# Altium integrated library Altera APEX 20KE.IntLib: 235 symbols (part 12 of 49)
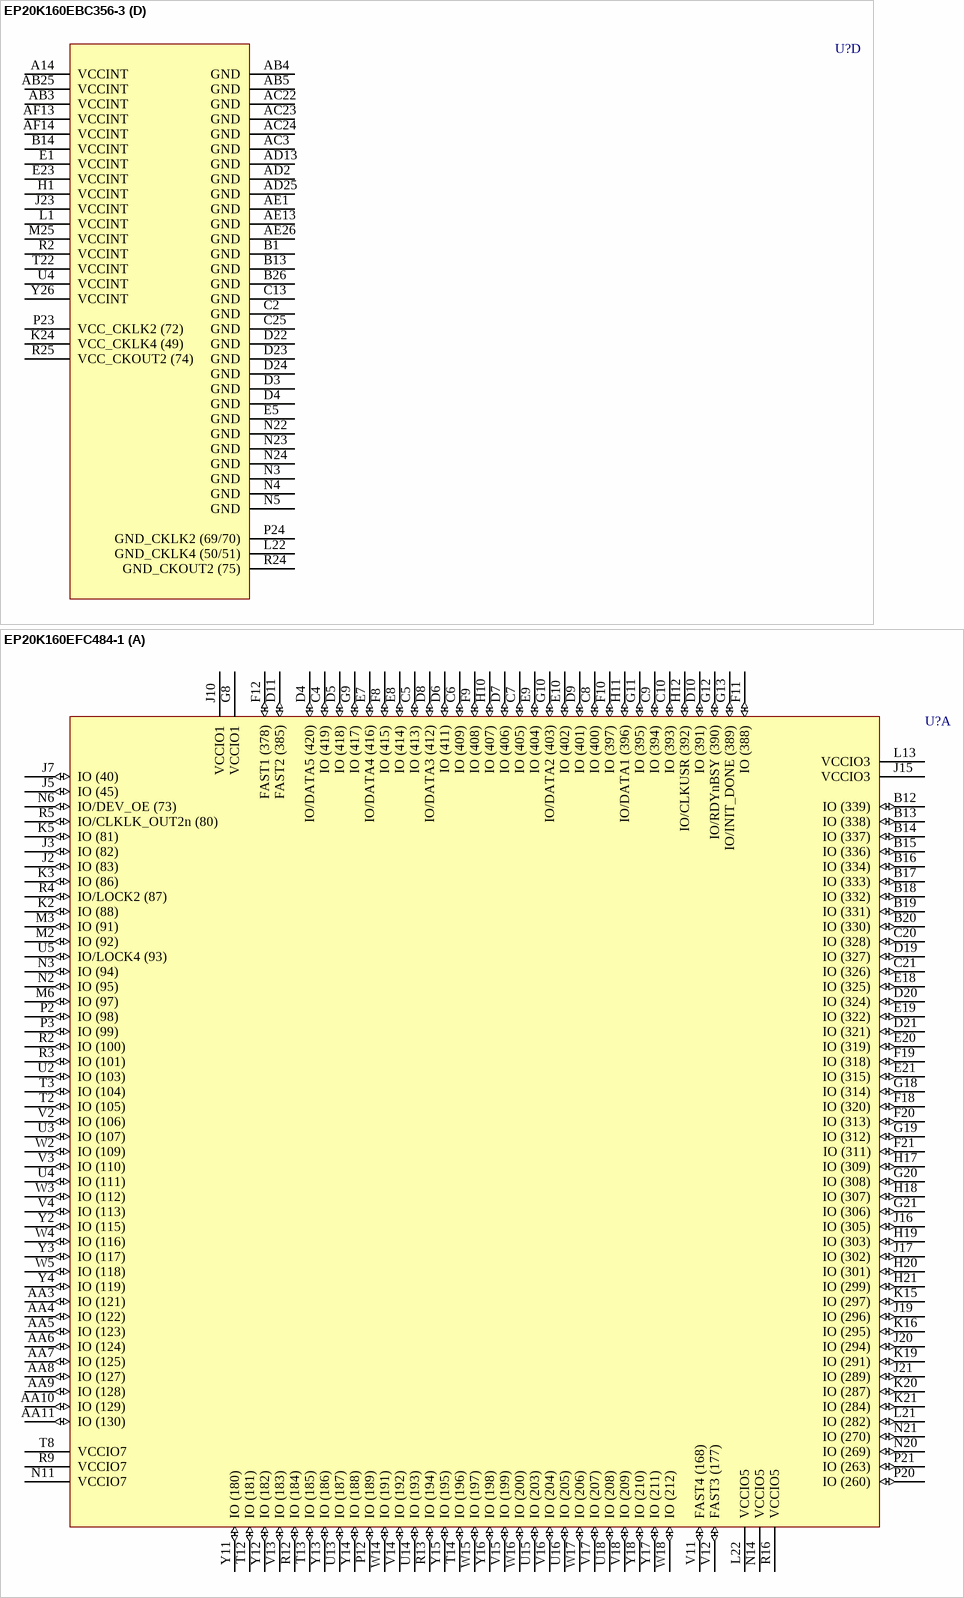
[diagram p410: symbols EP20K160EBC356-3 to EP20K160EFC484-1]

## EP20K160EBC356-3
designator U?
APEX 20K160E PLD, 356-Pin BGA, Commercial Grade, Speed Grade 3; Published: 17-Jul-2002; LatestRevisionDate: 13-Apr-2006; LatestRevisionNote: IPC-7351 Footprint Added.; DatasheetVersion: Mar-2004; PackageVersion: ver14.1, Oct-2005; PackageReference: BGA356; Publisher: Altium Limited; PackageDescription: 356-Ball Ball Grid Array (BGA356); Code_JEDEC: MO-192-BAR-2; ComponentLink1Description: Manufacturer Link; ComponentLink1URL: http://www.altera.com/products/devices/apex/apx-index.html; ComponentLink2Description: Datasheet; ComponentLink2URL: http://www.altera.com/literature/ds/apex.pdf
footprint BGA356 (BGA, 356-Leads, Body 35x35mm, Pitch 1.27mm)
3D model EP20K160E-BGA356 (356-Ball Ball Grid Array (BGA356))
part A pins: A13 FAST1 (378) (io), A15 FAST2 (385) (io), A16 IO/INIT_DONE (389) (io), A17 IO (391) (io), A18 IO (394) (io), A19 IO (397) (io), A20 IO (402) (io), A21 IO (405) (io), A22 IO (406) (io), A23 IO (409) (io), A24 IO (413) (io), A25 IO/DATA4 (416) (io), A26 VCCIO1 (power), AA22 IO (127) (io), AA23 IO (121) (io), AA24 IO (115) (io), AA25 IO (110) (io), AA26 IO (105) (io), AB22 IO (129) (io), AB23 IO (128) (io), AB24 IO (123) (io), AB26 IO (113) (io), AC4 IO (212) (io), AC5 IO (210) (io), AC25 IO (125) (io), AC26 IO (119) (io), AD1 VCCIO5 (power), AD3 IO (211) (io), AD4 IO (208) (io), AD5 IO (205) (io), AD6 IO (200) (io), AD7 IO (197) (io), AD8 IO (192) (io), AD9 IO (188) (io), AD10 IO (185) (io), AD11 IO (181) (io), AD14 VCCIO7 (power), AE2 IO (209) (io), AE3 IO (207) (io), AE4 IO (204) (io), AE5 IO (199) (io), AE6 IO (196) (io), AE7 IO (193) (io), AE8 IO (189) (io), AE9 IO (186) (io), AE10 IO (183) (io), AE11 IO (180) (io), AE14 FAST4 (168) (io), AF2 IO (206) (io), AF3 IO (203) (io), AF4 IO (198) (io), AF5 IO (195) (io), AF6 IO (194) (io), AF7 IO (191) (io), AF8 IO (187) (io), AF9 IO (184) (io), AF10 IO (182) (io), AF12 FAST3 (177) (io), AF26 VCCIO7 (power), B16 IO/RDYnBSY (390) (io), B17 IO (393) (io), B18 IO/DATA1 (396) (io), B19 IO (401) (io), B20 IO/DATA2 (403) (io), B21 IO (407) (io), B22 IO/DATA3 (412) (io), B23 IO (414) (io), B24 IO (417) (io), B25 IO (419) (io), C1 VCCIO3 (power), C14 VCCIO1 (power), C15 IO (388) (io), C16 IO/CLKUSR (392) (io), C17 IO (395) (io), C18 IO (400) (io), C19 IO (404) (io), C20 IO (408) (io), C21 IO (411) (io), C22 IO (415) (io), C23 IO (418) (io), C24 IO/DATA5 (420) (io), D1 IO (331) (io), D2 IO (336) (io), E2 IO (328) (io), E3 IO (334) (io), E4 IO (338) (io), F1 IO (319) (io), F2 IO (324) (io), F3 IO (326) (io), F4 IO (332) (io), F5 IO (337) (io), G1 IO (311) (io), G2 IO (315) (io), G3 IO (320) (io), G4 IO (325) (io), G5 IO (330) (io), H2 IO (307) (io), H3 IO (312) (io), H4 IO (318) (io), H5 IO (322) (io), J1 IO (300) (io), J2 IO (303) (io), J3 IO (306) (io), J4 IO (309) (io), J5 IO (313) (io), K1 IO (293) (io), K2 IO (295) (io), K3 IO (299) (io), K4 IO (301) (io), K5 IO (305) (io), L2 IO (289) (io), L3 IO (291) (io), L4 IO (294) (io), L5 IO (297) (io), M1 IO (283) (io), M2 IO (285) (io), M3 IO (287) (io), M4 IO (288) (io), M5 VCCIO3 (power), N1 IO (282) (io), N2 IO (281) (io), P5 VCCIO5 (power), R22 IO/CLKLK_OUT2n (80) (io), R26 IO/DEV_OE (73) (io), T23 IO (81) (io), T24 IO/LOCK2 (87) (io), T25 IO (77) (io), T26 IO (76) (io), U22 IO (91) (io), U23 IO (89) (io), U24 IO (85) (io), U25 IO (83) (io), U26 IO (82) (io), V22 IO (101) (io), V23 IO (97) (io), V24 IO (92) (io), V25 IO/LOCK4 (93) (io), V26 IO (86) (io), W22 IO (109) (io), W23 IO (104) (io), W24 IO (99) (io), W25 IO (98) (io), W26 IO (95) (io), Y22 IO (117) (io), Y23 IO (111) (io), Y24 IO (107) (io), Y25 IO (103) (io)
part B pins: A1 VCCIO2 (power), A2 IO (347) (io), A3 IO (350) (io), A4 IO (354) (io), A5 IO (355) (io), A6 IO (359) (io), A7 IO (362) (io), A8 IO (366) (io), A9 IO (369) (io), A10 IO (372) (io), A11 IO (375) (io), AA1 IO (240) (io), AA2 IO (234) (io), AA3 IO (226) (io), AA4 IO (218) (io), AA5 IO (216) (io), AB1 IO (230) (io), AB2 IO (224) (io), AC1 IO (222) (io), AC2 IO (217) (io), AD12 VCCIO4 (power), AD15 IO (165) (io), AD16 IO (162) (io), AD17 IO (157) (io), AD18 IO (153) (io), AD19 IO (150) (io), AD20 IO (145) (io), AD21 IO (141) (io), AD22 IO (138) (io), AD23 IO (135) (io), AD24 IO (133) (io), AD26 VCCIO6 (power), AE16 IO (163) (io), AE17 IO (159) (io), AE18 IO (156) (io), AE19 IO (152) (io), AE20 IO (149) (io), AE21 IO (146) (io), AE22 IO (142) (io), AE23 IO (139) (io), AE24 IO (136) (io), AE25 IO (134) (io), AF1 VCCIO4 (power), AF16 IO (164) (io), AF17 IO (160) (io), AF18 IO (158) (io), AF19 IO (155) (io), AF20 IO (151) (io), AF21 IO (148) (io), AF22 IO (147) (io), AF23 IO (144) (io), AF24 IO (140) (io), AF25 IO (137) (io), B2 IO (343) (io), B3 IO (346) (io), B4 IO (349) (io), B5 IO (353) (io), B6 IO (358) (io), B7 IO (360) (io), B8 IO (363) (io), B9 IO (367) (io), B10 IO (370) (io), B11 IO (374) (io), C3 IO (342) (io), C4 IO (345) (io), C5 IO (348) (io), C6 IO (351) (io), C7 IO (356) (io), C8 IO (361) (io), C9 IO (365) (io), C10 IO (368) (io), C11 IO (373) (io), C12 VCCIO2 (power), C26 VCCIO8 (power), D5 IO (344) (io), D25 IO (3) (io), D26 IO (11) (io), E22 IO (2) (io), E24 IO (7) (io), E25 IO (15) (io), E26 IO (17) (io), F22 IO (4) (io), F23 IO (9) (io), F24 IO/DATA6 (28) (io), F25 IO (19) (io), F26 IO (23) (io), G22 IO (13) (io), G23 IO/DATA7 (33) (io), G24 IO (21) (io), G25 IO (25) (io), G26 IO (31) (io), H22 IO/nWS (35) (io), H23 IO (27) (io), H24 IO/nRS (39) (io), H25 IO (37) (io), H26 IO (40) (io), J22 IO (34) (io), J24 IO/nCS (41) (io), J25 IO (45) (io), J26 IO (47) (io), K22 IO (43) (io), K23 IO (46) (io), K25 IO/CS (52) (io), K26 IO (53) (io), L23 IO/DEV_CLRn (54) (io), L24 IO/CLKLK_FB2n (57) (io), L26 IO/CLK4n (59) (io), M22 VCCIO8 (power), M23 CLK4p (60) (in), M24 IO/CLK2n (61) (io), N26 CLK2p (65) (in), P3 CLK1p (277) (in), P22 VCCIO6 (power), R3 IO/CLK1n (273) (io), R4 CLK3p (272) (in), R5 IO (267) (io), T1 IO/CLK3n (271) (io), T2 IO (269) (io), T3 IO (266) (io), T4 IO (263) (io), T5 IO (260) (io), U1 IO (265) (io), U2 IO (261) (io), U3 IO (259) (io), U5 IO (251) (io), V1 IO (257) (io), V2 IO (255) (io), V3 IO (253) (io), V4 IO (247) (io), V5 IO (242) (io), W1 IO (254) (io), W2 IO (248) (io), W3 IO (244) (io), W4 IO (238) (io), W5 IO (232) (io), Y1 IO (246) (io), Y2 IO (241) (io), Y3 IO (236) (io), Y4 IO (228) (io), Y5 IO (220) (io)
part C pins: A12 nCEO (377) (out), AE12 TCK (178) (in), AE15 CONF_DONE (166) (io), AF11 TMS (179) (in), AF15 nSTATUS (167) (io), B12 TRST (376) (in), B15 TDO (386) (out), L25 CLKLK_FB2p (58) (in), M26 DATA0 (63) (in), N25 DCLK (64) (in), P1 MSEL0 (279) (in), P2 MSEL1 (278) (in), P4 CLKLK_ENA (276) (in), P25 TDI (67) (in), P26 nCE (66) (in), R1 nCONFIG (275) (in), R23 CLKLK_OUT2p (79) (out)
part D pins: A14 VCCINT (power), AB3 VCCINT (power), AB4 GND (power), AB5 GND (power), AB25 VCCINT (power), AC3 GND (power), AC22 GND (power), AC23 GND (power), AC24 GND (power), AD2 GND (power), AD13 GND (power), AD25 GND (power), AE1 GND (power), AE13 GND (power), AE26 GND (power), AF13 VCCINT (power), AF14 VCCINT (power), B1 GND (power), B13 GND (power), B14 VCCINT (power), B26 GND (power), C2 GND (power), C13 GND (power), C25 GND (power), D3 GND (power), D4 GND (power), D22 GND (power), D23 GND (power), D24 GND (power), E1 VCCINT (power), E5 GND (power), E23 VCCINT (power), H1 VCCINT (power), J23 VCCINT (power), K24 VCC_CKLK4 (49) (power), L1 VCCINT (power), L22 GND_CKLK4 (50/51) (power), M25 VCCINT (power), N3 GND (power), N4 GND (power), N5 GND (power), N22 GND (power), N23 GND (power), N24 GND (power), P23 VCC_CKLK2 (72) (power), P24 GND_CKLK2 (69/70) (power), R2 VCCINT (power), R24 GND_CKOUT2 (75) (power), R25 VCC_CKOUT2 (74) (power), T22 VCCINT (power), U4 VCCINT (power), Y26 VCCINT (power)

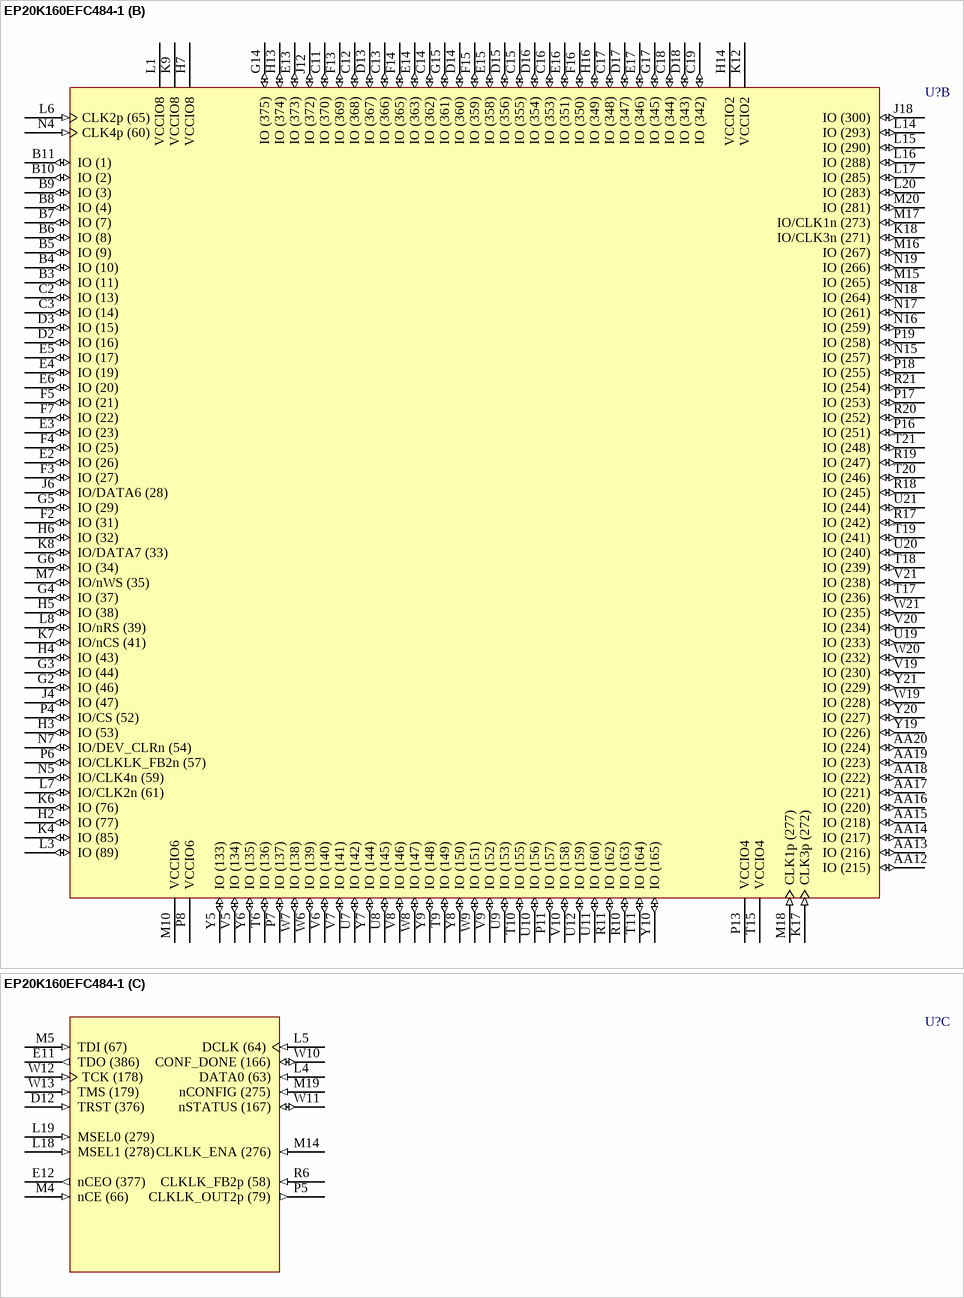
[diagram p122: symbol EP20K160EFC484-1]

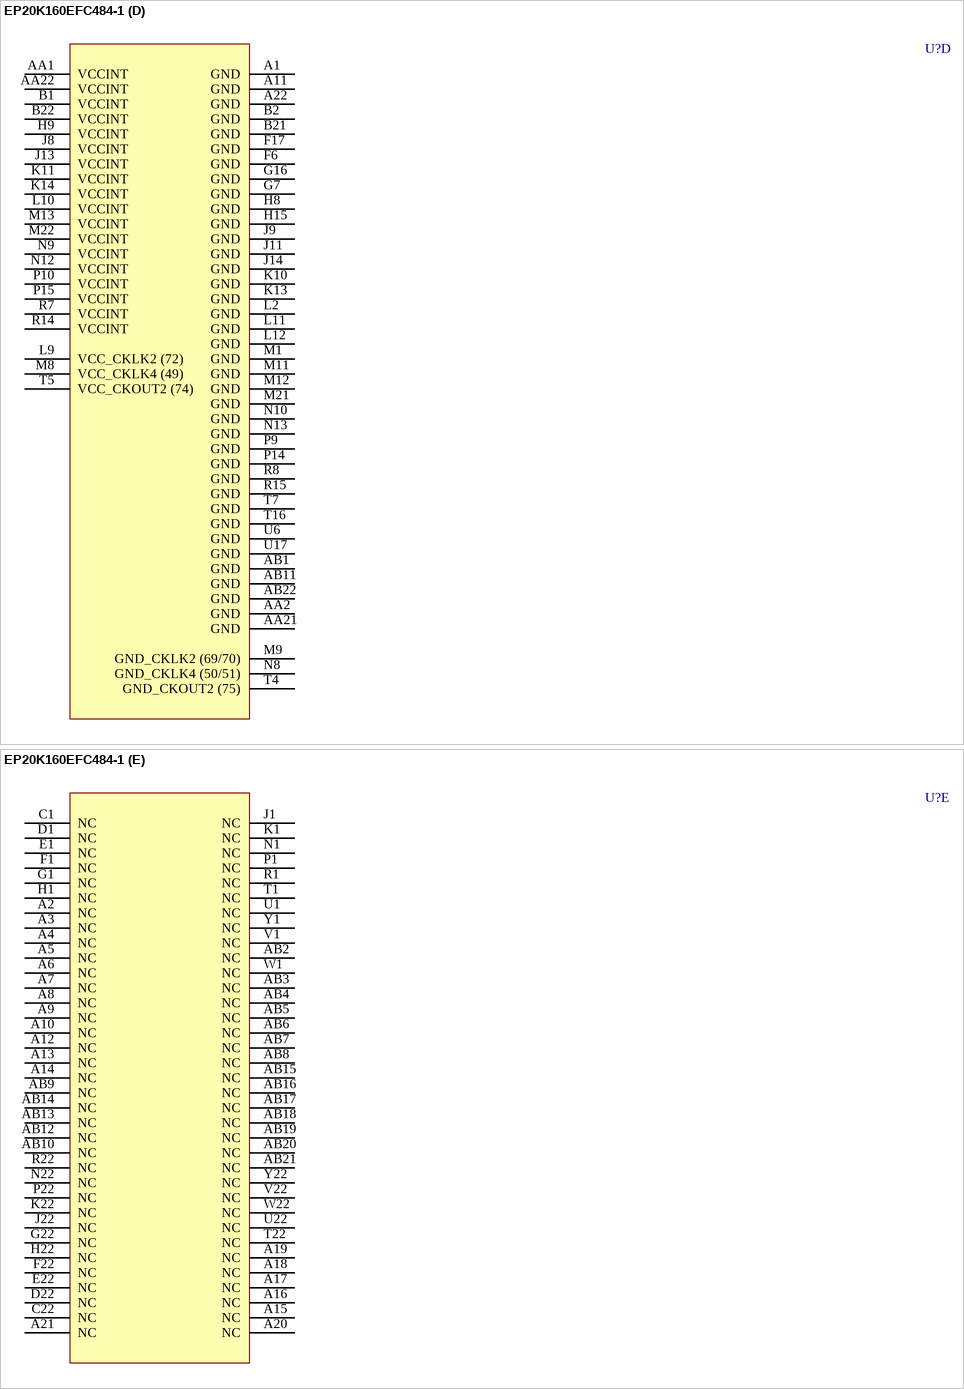
[diagram p123: symbol EP20K160EFC484-1]

## EP20K160EFC484-1
designator U?
APEX 20K160E PLD, 484-Pin FBGA, Commercial Grade, Speed Grade 1; Published: 17-Jul-2002; LatestRevisionDate: 13-Apr-2006; LatestRevisionNote: IPC-7351 Footprint Added.; DatasheetVersion: Mar-2004; PackageVersion: ver14.1, Oct-2005; PackageReference: FBGA484; Publisher: Altium Limited; PackageDescription: 484-Ball FineLine Ball Grid Array (FBGA484) - Flip Chip; Code_JEDEC: MS-034-AAJ-1; Code_IPC: BGA100P22X22-484; ComponentLink1Description: Manufacturer Link; ComponentLink1URL: http://www.altera.com/products/devices/apex/apx-index.html; ComponentLink2Description: Datasheet; ComponentLink2URL: http://www.altera.com/literature/ds/apex.pdf
footprint FBGA484 (BGA, 484-Leads, Body 23x23mm, Pitch 1mm)
3D model EP20K160E-FBGA484 (484-Ball FineLine Ball Grid Array (FBGA484) - Flip Chip)
part A pins: AA3 IO (121) (io), AA4 IO (122) (io), AA5 IO (123) (io), AA6 IO (124) (io), AA7 IO (125) (io), AA8 IO (127) (io), AA9 IO (128) (io), AA10 IO (129) (io), AA11 IO (130) (io), B12 IO (339) (io), B13 IO (338) (io), B14 IO (337) (io), B15 IO (336) (io), B16 IO (334) (io), B17 IO (333) (io), B18 IO (332) (io), B19 IO (331) (io), B20 IO (330) (io), C4 IO (419) (io), C5 IO (413) (io), C6 IO (409) (io), C7 IO (405) (io), C8 IO (400) (io), C9 IO (394) (io), C10 IO (393) (io), C20 IO (328) (io), C21 IO (326) (io), D4 IO/DATA5 (420) (io), D5 IO (418) (io), D6 IO (411) (io), D7 IO (406) (io), D8 IO/DATA3 (412) (io), D9 IO (401) (io), D10 IO (391) (io), D11 FAST2 (385) (io), D19 IO (327) (io), D20 IO (324) (io), D21 IO (321) (io), E7 IO/DATA4 (416) (io), E8 IO (414) (io), E9 IO (404) (io), E10 IO (402) (io), E18 IO (325) (io), E19 IO (322) (io), E20 IO (319) (io), E21 IO (315) (io), F8 IO (415) (io), F9 IO (408) (io), F10 IO (397) (io), F11 IO (388) (io), F12 FAST1 (378) (io), F18 IO (320) (io), F19 IO (318) (io), F20 IO (313) (io), F21 IO (311) (io), G8 VCCIO1 (power), G9 IO (417) (io), G10 IO/DATA2 (403) (io), G11 IO (395) (io), G12 IO/RDYnBSY (390) (io), G13 IO/INIT_DONE (389) (io), G18 IO (314) (io), G19 IO (312) (io), G20 IO (308) (io), G21 IO (306) (io), H10 IO (407) (io), H11 IO/DATA1 (396) (io), H12 IO/CLKUSR (392) (io), H17 IO (309) (io), H18 IO (307) (io), H19 IO (303) (io), H20 IO (301) (io), H21 IO (299) (io), J2 IO (83) (io), J3 IO (82) (io), J5 IO (45) (io), J7 IO (40) (io), J10 VCCIO1 (power), J15 VCCIO3 (power), J16 IO (305) (io), J17 IO (302) (io), J19 IO (296) (io), J20 IO (294) (io), J21 IO (289) (io), K2 IO (88) (io), K3 IO (86) (io), K5 IO (81) (io), K15 IO (297) (io), K16 IO (295) (io), K19 IO (291) (io), K20 IO (287) (io), K21 IO (284) (io), L13 VCCIO3 (power), L21 IO (282) (io), L22 VCCIO5 (power), M2 IO (92) (io), M3 IO (91) (io), M6 IO (97) (io), N2 IO (95) (io), N3 IO (94) (io), N6 IO/DEV_OE (73) (io), N11 VCCIO7 (power), N14 VCCIO5 (power), N20 IO (269) (io), N21 IO (270) (io), P2 IO (98) (io), P3 IO (99) (io), P12 IO (189) (io), P20 IO (260) (io), P21 IO (263) (io), R2 IO (100) (io), R3 IO (101) (io), R4 IO/LOCK2 (87) (io), R5 IO/CLKLK_OUT2n (80) (io), R9 VCCIO7 (power), R12 IO (184) (io), R13 IO (194) (io), R16 VCCIO5 (power), T2 IO (105) (io), T3 IO (104) (io), T8 VCCIO7 (power), T12 IO (181) (io), T13 IO (185) (io), T14 IO (196) (io), U2 IO (103) (io), U3 IO (107) (io), U4 IO (111) (io), U5 IO/LOCK4 (93) (io), U13 IO (187) (io), U14 IO (193) (io), U15 IO (203) (io), U16 IO (205) (io), U18 IO (208) (io), V2 IO (106) (io), V3 IO (110) (io), V4 IO (113) (io), V11 FAST4 (168) (io), V12 FAST3 (177) (io), V13 IO (183) (io), V14 IO (192) (io), V15 IO (199) (io), V16 IO (204) (io), V17 IO (207) (io), V18 IO (209) (io), W2 IO (109) (io), W3 IO (112) (io), W4 IO (116) (io), W5 IO (118) (io), W14 IO (191) (io), W15 IO (197) (io), W16 IO (200) (io), W17 IO (206) (io), W18 IO (212) (io), Y2 IO (115) (io), Y3 IO (117) (io), Y4 IO (119) (io), Y11 IO (180) (io), Y12 IO (182) (io), Y13 IO (186) (io), Y14 IO (188) (io), Y15 IO (195) (io), Y16 IO (198) (io), Y17 IO (211) (io), Y18 IO (210) (io)
part B pins: AA12 IO (215) (io), AA13 IO (216) (io), AA14 IO (217) (io), AA15 IO (218) (io), AA16 IO (220) (io), AA17 IO (221) (io), AA18 IO (222) (io), AA19 IO (223) (io), AA20 IO (224) (io), B3 IO (11) (io), B4 IO (10) (io), B5 IO (9) (io), B6 IO (8) (io), B7 IO (7) (io), B8 IO (4) (io), B9 IO (3) (io), B10 IO (2) (io), B11 IO (1) (io), C2 IO (13) (io), C3 IO (14) (io), C11 IO (370) (io), C12 IO (368) (io), C13 IO (366) (io), C14 IO (362) (io), C15 IO (355) (io), C16 IO (353) (io), C17 IO (348) (io), C18 IO (344) (io), C19 IO (342) (io), D2 IO (16) (io), D3 IO (15) (io), D13 IO (367) (io), D14 IO (360) (io), D15 IO (356) (io), D16 IO (354) (io), D17 IO (347) (io), D18 IO (343) (io), E2 IO (26) (io), E3 IO (23) (io), E4 IO (19) (io), E5 IO (17) (io), E6 IO (20) (io), E13 IO (373) (io), E14 IO (363) (io), E15 IO (358) (io), E16 IO (351) (io), E17 IO (346) (io), F2 IO (31) (io), F3 IO (27) (io), F4 IO (25) (io), F5 IO (21) (io), F7 IO (22) (io), F13 IO (369) (io), F14 IO (365) (io), F15 IO (359) (io), F16 IO (350) (io), G2 IO (46) (io), G3 IO (44) (io), G4 IO (37) (io), G5 IO (29) (io), G6 IO (34) (io), G14 IO (375) (io), G15 IO (361) (io), G17 IO (345) (io), H2 IO (77) (io), H3 IO (53) (io), H4 IO (43) (io), H5 IO (38) (io), H6 IO (32) (io), H7 VCCIO8 (power), H13 IO (374) (io), H14 VCCIO2 (power), H16 IO (349) (io), J4 IO (47) (io), J6 IO/DATA6 (28) (io), J12 IO (372) (io), J18 IO (300) (io), K4 IO (85) (io), K6 IO (76) (io), K7 IO/nCS (41) (io), K8 IO/DATA7 (33) (io), K9 VCCIO8 (power), K12 VCCIO2 (power), K17 CLK3p (272) (in), K18 IO/CLK3n (271) (io), L1 VCCIO8 (power), L3 IO (89) (io), L6 CLK2p (65) (in), L7 IO/CLK2n (61) (io), L8 IO/nRS (39) (io), L14 IO (293) (io), L15 IO (290) (io), L16 IO (288) (io), L17 IO (285) (io), L20 IO (283) (io), M7 IO/nWS (35) (io), M10 VCCIO6 (power), M15 IO (265) (io), M16 IO (267) (io), M17 IO/CLK1n (273) (io), M18 CLK1p (277) (in), M20 IO (281) (io), N4 CLK4p (60) (in), N5 IO/CLK4n (59) (io), N7 IO/DEV_CLRn (54) (io), N15 IO (257) (io), N16 IO (259) (io), N17 IO (261) (io), N18 IO (264) (io), N19 IO (266) (io), P4 IO/CS (52) (io), P6 IO/CLKLK_FB2n (57) (io), P7 IO (137) (io), P8 VCCIO6 (power), P11 IO (157) (io), P13 VCCIO4 (power), P16 IO (251) (io), P17 IO (253) (io), P18 IO (255) (io), P19 IO (258) (io), R10 IO (163) (io), R11 IO (162) (io), R17 IO (242) (io), R18 IO (245) (io), R19 IO (247) (io), R20 IO (252) (io), R21 IO (254) (io), T6 IO (136) (io), T9 IO (149) (io), T10 IO (155) (io), T11 IO (164) (io), T15 VCCIO4 (power), T17 IO (236) (io), T18 IO (239) (io), T19 IO (241) (io), T20 IO (246) (io), T21 IO (248) (io), U7 IO (142) (io), U8 IO (145) (io), U9 IO (153) (io), U10 IO (156) (io), U11 IO (160) (io), U12 IO (159) (io), U19 IO (233) (io), U20 IO (240) (io), U21 IO (244) (io), V5 IO (134) (io), V6 IO (140) (io), V7 IO (141) (io), V8 IO (146) (io), V9 IO (152) (io), V10 IO (158) (io), V19 IO (230) (io), V20 IO (234) (io), V21 IO (238) (io), W6 IO (139) (io), W7 IO (138) (io), W8 IO (147) (io), W9 IO (151) (io), W19 IO (228) (io), W20 IO (232) (io), W21 IO (235) (io), Y5 IO (133) (io), Y6 IO (135) (io), Y7 IO (144) (io), Y8 IO (150) (io), Y9 IO (148) (io), Y10 IO (165) (io), Y19 IO (226) (io), Y20 IO (227) (io), Y21 IO (229) (io)
part C pins: D12 TRST (376) (in), E11 TDO (386) (out), E12 nCEO (377) (out), L4 DATA0 (63) (in), L5 DCLK (64) (in), L18 MSEL1 (278) (in), L19 MSEL0 (279) (in), M4 nCE (66) (in), M5 TDI (67) (in), M14 CLKLK_ENA (276) (in), M19 nCONFIG (275) (in), P5 CLKLK_OUT2p (79) (out), R6 CLKLK_FB2p (58) (in), W10 CONF_DONE (166) (io), W11 nSTATUS (167) (io), W12 TCK (178) (in), W13 TMS (179) (in)
part D pins: A1 GND (power), A11 GND (power), A22 GND (power), AA1 VCCINT (power), AA2 GND (power), AA21 GND (power), AA22 VCCINT (power), AB1 GND (power), AB11 GND (power), AB22 GND (power), B1 VCCINT (power), B2 GND (power), B21 GND (power), B22 VCCINT (power), F6 GND (power), F17 GND (power), G7 GND (power), G16 GND (power), H8 GND (power), H9 VCCINT (power), H15 GND (power), J8 VCCINT (power), J9 GND (power), J11 GND (power), J13 VCCINT (power), J14 GND (power), K10 GND (power), K11 VCCINT (power), K13 GND (power), K14 VCCINT (power), L2 GND (power), L9 VCC_CKLK2 (72) (power), L10 VCCINT (power), L11 GND (power), L12 GND (power), M1 GND (power), M8 VCC_CKLK4 (49) (power), M9 GND_CKLK2 (69/70) (power), M11 GND (power), M12 GND (power), M13 VCCINT (power), M21 GND (power), M22 VCCINT (power), N8 GND_CKLK4 (50/51) (power), N9 VCCINT (power), N10 GND (power), N12 VCCINT (power), N13 GND (power), P9 GND (power), P10 VCCINT (power), P14 GND (power), P15 VCCINT (power), R7 VCCINT (power), R8 GND (power), R14 VCCINT (power), R15 GND (power), T4 GND_CKOUT2 (75) (power), T5 VCC_CKOUT2 (74) (power), T7 GND (power), T16 GND (power), U6 GND (power), U17 GND (power)
part E pins: A2 NC, A3 NC, A4 NC, A5 NC, A6 NC, A7 NC, A8 NC, A9 NC, A10 NC, A12 NC, A13 NC, A14 NC, A15 NC, A16 NC, A17 NC, A18 NC, A19 NC, A20 NC, A21 NC, AB2 NC, AB3 NC, AB4 NC, AB5 NC, AB6 NC, AB7 NC, AB8 NC, AB9 NC, AB10 NC, AB12 NC, AB13 NC, AB14 NC, AB15 NC, AB16 NC, AB17 NC, AB18 NC, AB19 NC, AB20 NC, AB21 NC, C1 NC, C22 NC, D1 NC, D22 NC, E1 NC, E22 NC, F1 NC, F22 NC, G1 NC, G22 NC, H1 NC, H22 NC, J1 NC, J22 NC, K1 NC, K22 NC, N1 NC, N22 NC, P1 NC, P22 NC, R1 NC, R22 NC, T1 NC, T22 NC, U1 NC, U22 NC, V1 NC, V22 NC, W1 NC, W22 NC, Y1 NC, Y22 NC

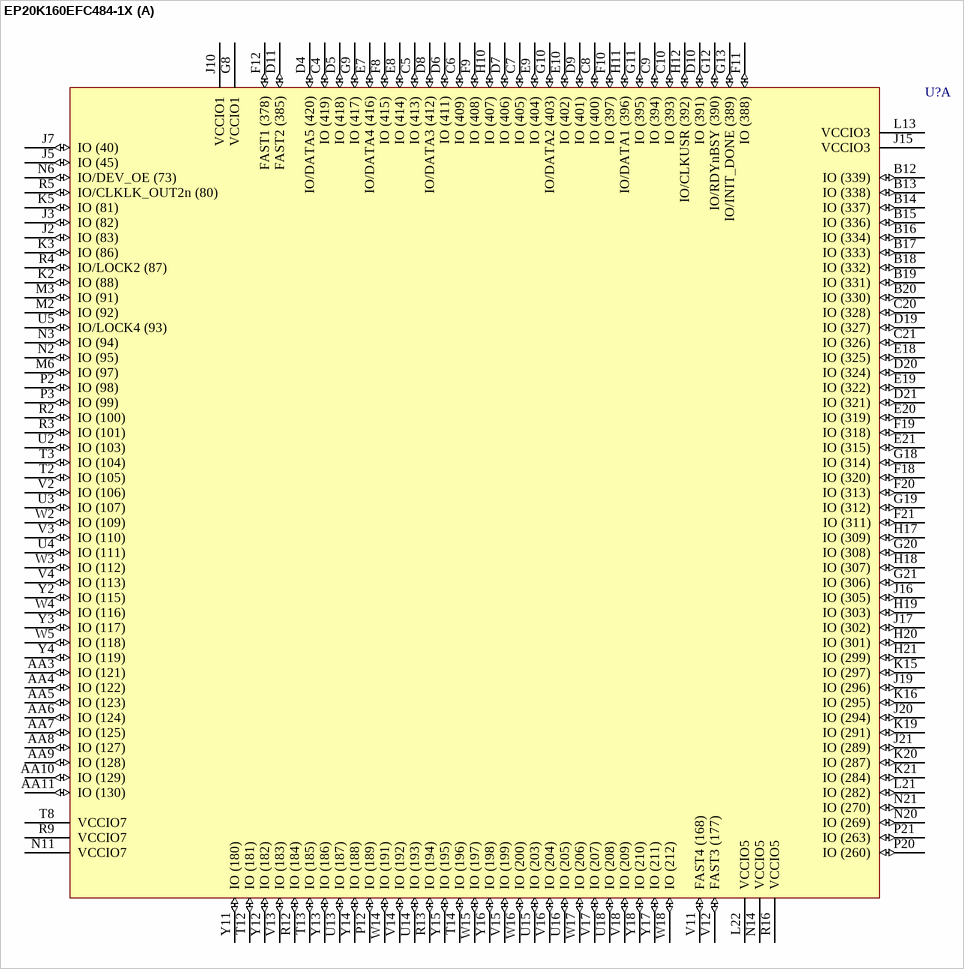
[diagram p124: symbol EP20K160EFC484-1X]

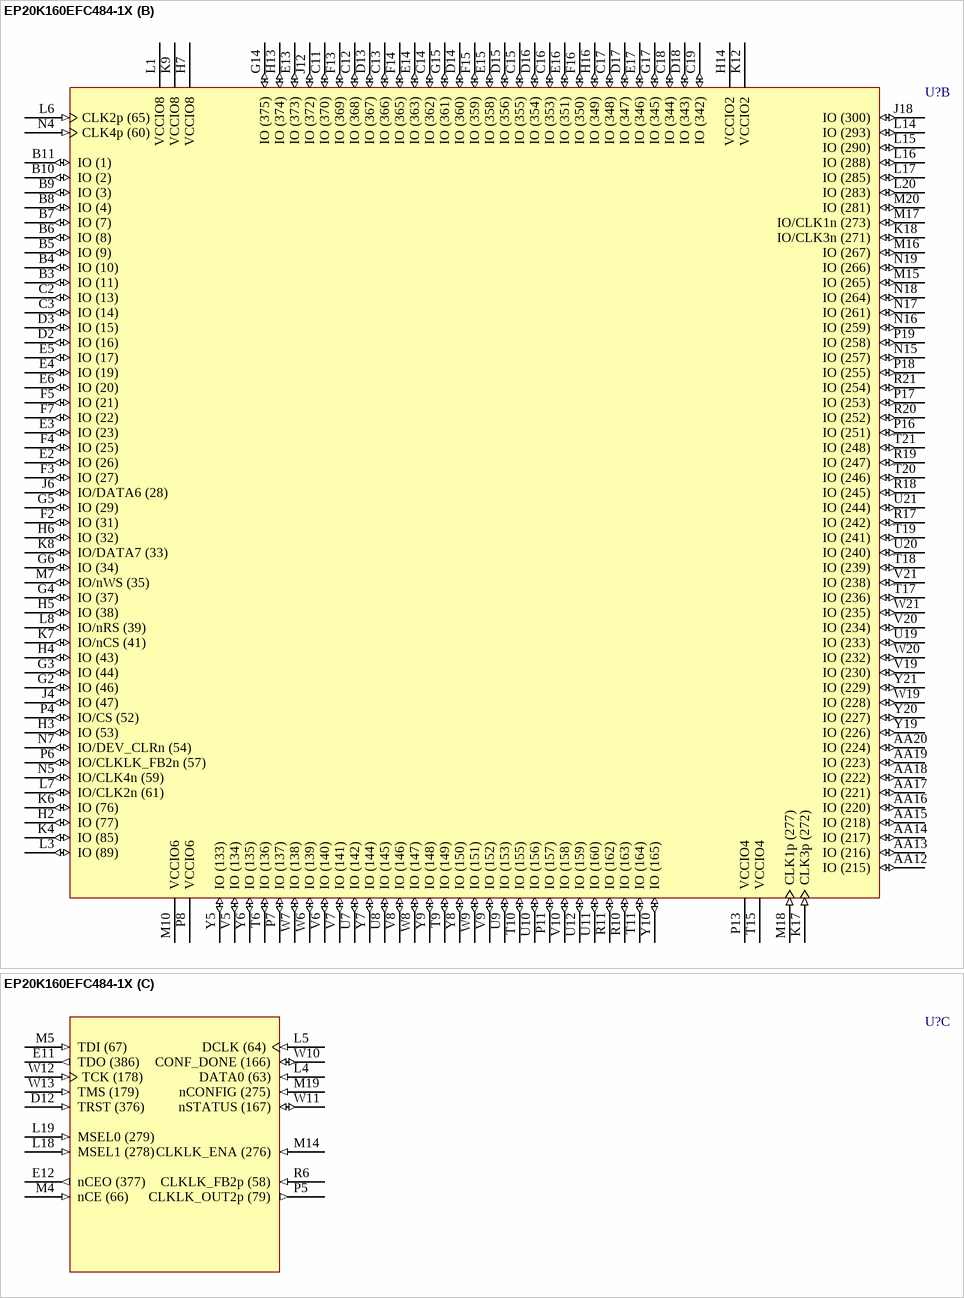
[diagram p125: symbol EP20K160EFC484-1X]

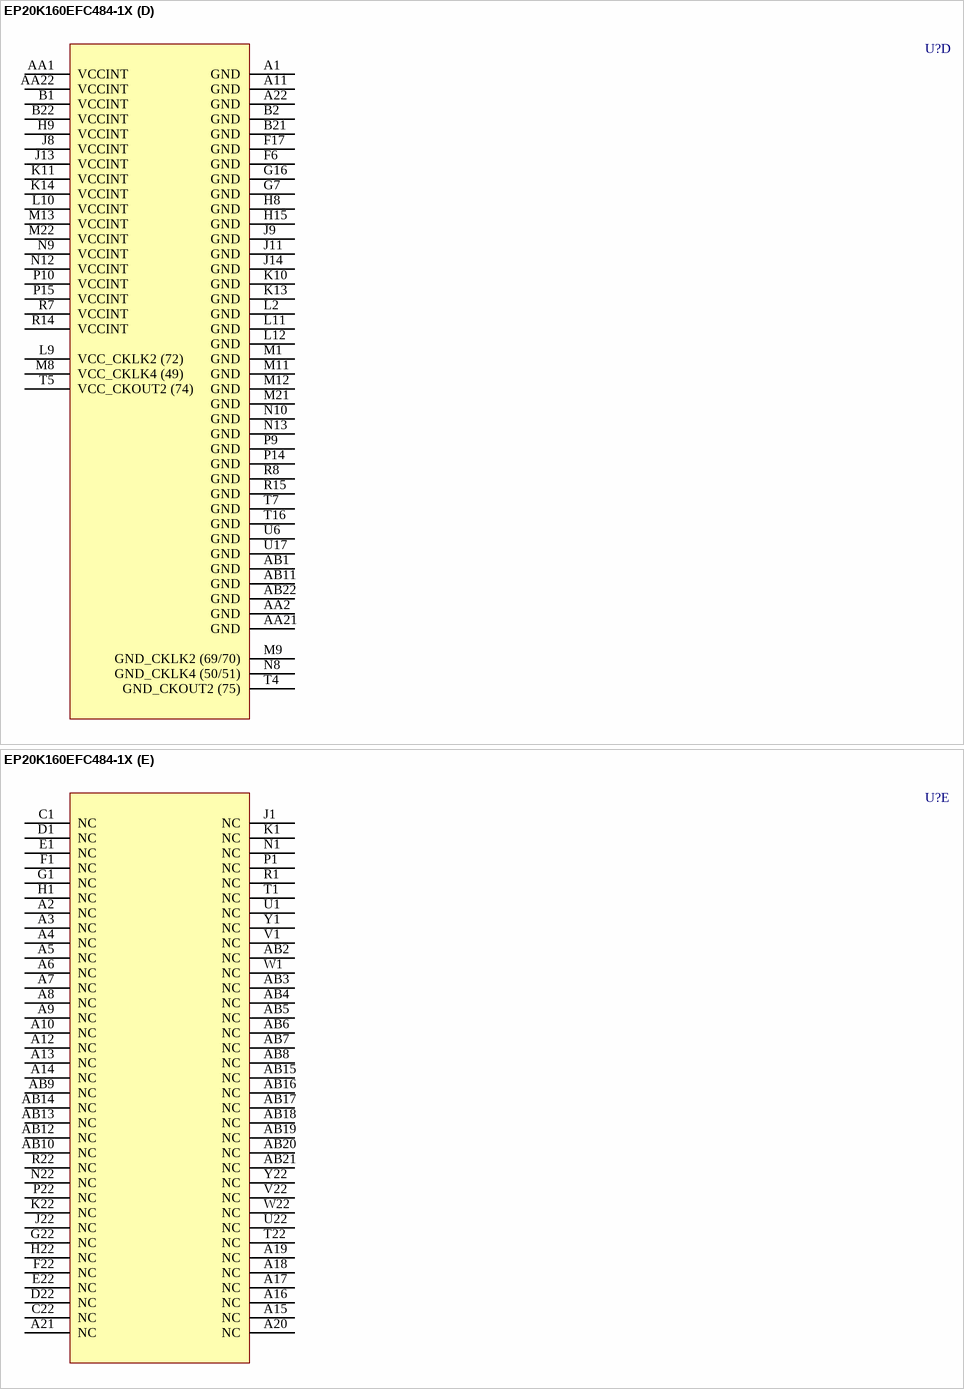
[diagram p126: symbol EP20K160EFC484-1X]

## EP20K160EFC484-1X
designator U?
APEX 20K160E PLD with PLLs and LVDS, 484-Pin FBGA, Commercial Grade, Speed Grade 1; Published: 17-Jul-2002; LatestRevisionDate: 13-Apr-2006; LatestRevisionNote: IPC-7351 Footprint Added.; DatasheetVersion: Mar-2004; PackageVersion: ver14.1, Oct-2005; PackageReference: FBGA484; Publisher: Altium Limited; PackageDescription: 484-Ball FineLine Ball Grid Array (FBGA484) - Flip Chip; Code_JEDEC: MS-034-AAJ-1; Code_IPC: BGA100P22X22-484; ComponentLink1Description: Manufacturer Link; ComponentLink1URL: http://www.altera.com/products/devices/apex/apx-index.html; ComponentLink2Description: Datasheet; ComponentLink2URL: http://www.altera.com/literature/ds/apex.pdf
footprint FBGA484 (BGA, 484-Leads, Body 23x23mm, Pitch 1mm)
3D model EP20K160E-FBGA484 (484-Ball FineLine Ball Grid Array (FBGA484) - Flip Chip)
part A pins: AA3 IO (121) (io), AA4 IO (122) (io), AA5 IO (123) (io), AA6 IO (124) (io), AA7 IO (125) (io), AA8 IO (127) (io), AA9 IO (128) (io), AA10 IO (129) (io), AA11 IO (130) (io), B12 IO (339) (io), B13 IO (338) (io), B14 IO (337) (io), B15 IO (336) (io), B16 IO (334) (io), B17 IO (333) (io), B18 IO (332) (io), B19 IO (331) (io), B20 IO (330) (io), C4 IO (419) (io), C5 IO (413) (io), C6 IO (409) (io), C7 IO (405) (io), C8 IO (400) (io), C9 IO (394) (io), C10 IO (393) (io), C20 IO (328) (io), C21 IO (326) (io), D4 IO/DATA5 (420) (io), D5 IO (418) (io), D6 IO (411) (io), D7 IO (406) (io), D8 IO/DATA3 (412) (io), D9 IO (401) (io), D10 IO (391) (io), D11 FAST2 (385) (io), D19 IO (327) (io), D20 IO (324) (io), D21 IO (321) (io), E7 IO/DATA4 (416) (io), E8 IO (414) (io), E9 IO (404) (io), E10 IO (402) (io), E18 IO (325) (io), E19 IO (322) (io), E20 IO (319) (io), E21 IO (315) (io), F8 IO (415) (io), F9 IO (408) (io), F10 IO (397) (io), F11 IO (388) (io), F12 FAST1 (378) (io), F18 IO (320) (io), F19 IO (318) (io), F20 IO (313) (io), F21 IO (311) (io), G8 VCCIO1 (power), G9 IO (417) (io), G10 IO/DATA2 (403) (io), G11 IO (395) (io), G12 IO/RDYnBSY (390) (io), G13 IO/INIT_DONE (389) (io), G18 IO (314) (io), G19 IO (312) (io), G20 IO (308) (io), G21 IO (306) (io), H10 IO (407) (io), H11 IO/DATA1 (396) (io), H12 IO/CLKUSR (392) (io), H17 IO (309) (io), H18 IO (307) (io), H19 IO (303) (io), H20 IO (301) (io), H21 IO (299) (io), J2 IO (83) (io), J3 IO (82) (io), J5 IO (45) (io), J7 IO (40) (io), J10 VCCIO1 (power), J15 VCCIO3 (power), J16 IO (305) (io), J17 IO (302) (io), J19 IO (296) (io), J20 IO (294) (io), J21 IO (289) (io), K2 IO (88) (io), K3 IO (86) (io), K5 IO (81) (io), K15 IO (297) (io), K16 IO (295) (io), K19 IO (291) (io), K20 IO (287) (io), K21 IO (284) (io), L13 VCCIO3 (power), L21 IO (282) (io), L22 VCCIO5 (power), M2 IO (92) (io), M3 IO (91) (io), M6 IO (97) (io), N2 IO (95) (io), N3 IO (94) (io), N6 IO/DEV_OE (73) (io), N11 VCCIO7 (power), N14 VCCIO5 (power), N20 IO (269) (io), N21 IO (270) (io), P2 IO (98) (io), P3 IO (99) (io), P12 IO (189) (io), P20 IO (260) (io), P21 IO (263) (io), R2 IO (100) (io), R3 IO (101) (io), R4 IO/LOCK2 (87) (io), R5 IO/CLKLK_OUT2n (80) (io), R9 VCCIO7 (power), R12 IO (184) (io), R13 IO (194) (io), R16 VCCIO5 (power), T2 IO (105) (io), T3 IO (104) (io), T8 VCCIO7 (power), T12 IO (181) (io), T13 IO (185) (io), T14 IO (196) (io), U2 IO (103) (io), U3 IO (107) (io), U4 IO (111) (io), U5 IO/LOCK4 (93) (io), U13 IO (187) (io), U14 IO (193) (io), U15 IO (203) (io), U16 IO (205) (io), U18 IO (208) (io), V2 IO (106) (io), V3 IO (110) (io), V4 IO (113) (io), V11 FAST4 (168) (io), V12 FAST3 (177) (io), V13 IO (183) (io), V14 IO (192) (io), V15 IO (199) (io), V16 IO (204) (io), V17 IO (207) (io), V18 IO (209) (io), W2 IO (109) (io), W3 IO (112) (io), W4 IO (116) (io), W5 IO (118) (io), W14 IO (191) (io), W15 IO (197) (io), W16 IO (200) (io), W17 IO (206) (io), W18 IO (212) (io), Y2 IO (115) (io), Y3 IO (117) (io), Y4 IO (119) (io), Y11 IO (180) (io), Y12 IO (182) (io), Y13 IO (186) (io), Y14 IO (188) (io), Y15 IO (195) (io), Y16 IO (198) (io), Y17 IO (211) (io), Y18 IO (210) (io)
part B pins: AA12 IO (215) (io), AA13 IO (216) (io), AA14 IO (217) (io), AA15 IO (218) (io), AA16 IO (220) (io), AA17 IO (221) (io), AA18 IO (222) (io), AA19 IO (223) (io), AA20 IO (224) (io), B3 IO (11) (io), B4 IO (10) (io), B5 IO (9) (io), B6 IO (8) (io), B7 IO (7) (io), B8 IO (4) (io), B9 IO (3) (io), B10 IO (2) (io), B11 IO (1) (io), C2 IO (13) (io), C3 IO (14) (io), C11 IO (370) (io), C12 IO (368) (io), C13 IO (366) (io), C14 IO (362) (io), C15 IO (355) (io), C16 IO (353) (io), C17 IO (348) (io), C18 IO (344) (io), C19 IO (342) (io), D2 IO (16) (io), D3 IO (15) (io), D13 IO (367) (io), D14 IO (360) (io), D15 IO (356) (io), D16 IO (354) (io), D17 IO (347) (io), D18 IO (343) (io), E2 IO (26) (io), E3 IO (23) (io), E4 IO (19) (io), E5 IO (17) (io), E6 IO (20) (io), E13 IO (373) (io), E14 IO (363) (io), E15 IO (358) (io), E16 IO (351) (io), E17 IO (346) (io), F2 IO (31) (io), F3 IO (27) (io), F4 IO (25) (io), F5 IO (21) (io), F7 IO (22) (io), F13 IO (369) (io), F14 IO (365) (io), F15 IO (359) (io), F16 IO (350) (io), G2 IO (46) (io), G3 IO (44) (io), G4 IO (37) (io), G5 IO (29) (io), G6 IO (34) (io), G14 IO (375) (io), G15 IO (361) (io), G17 IO (345) (io), H2 IO (77) (io), H3 IO (53) (io), H4 IO (43) (io), H5 IO (38) (io), H6 IO (32) (io), H7 VCCIO8 (power), H13 IO (374) (io), H14 VCCIO2 (power), H16 IO (349) (io), J4 IO (47) (io), J6 IO/DATA6 (28) (io), J12 IO (372) (io), J18 IO (300) (io), K4 IO (85) (io), K6 IO (76) (io), K7 IO/nCS (41) (io), K8 IO/DATA7 (33) (io), K9 VCCIO8 (power), K12 VCCIO2 (power), K17 CLK3p (272) (in), K18 IO/CLK3n (271) (io), L1 VCCIO8 (power), L3 IO (89) (io), L6 CLK2p (65) (in), L7 IO/CLK2n (61) (io), L8 IO/nRS (39) (io), L14 IO (293) (io), L15 IO (290) (io), L16 IO (288) (io), L17 IO (285) (io), L20 IO (283) (io), M7 IO/nWS (35) (io), M10 VCCIO6 (power), M15 IO (265) (io), M16 IO (267) (io), M17 IO/CLK1n (273) (io), M18 CLK1p (277) (in), M20 IO (281) (io), N4 CLK4p (60) (in), N5 IO/CLK4n (59) (io), N7 IO/DEV_CLRn (54) (io), N15 IO (257) (io), N16 IO (259) (io), N17 IO (261) (io), N18 IO (264) (io), N19 IO (266) (io), P4 IO/CS (52) (io), P6 IO/CLKLK_FB2n (57) (io), P7 IO (137) (io), P8 VCCIO6 (power), P11 IO (157) (io), P13 VCCIO4 (power), P16 IO (251) (io), P17 IO (253) (io), P18 IO (255) (io), P19 IO (258) (io), R10 IO (163) (io), R11 IO (162) (io), R17 IO (242) (io), R18 IO (245) (io), R19 IO (247) (io), R20 IO (252) (io), R21 IO (254) (io), T6 IO (136) (io), T9 IO (149) (io), T10 IO (155) (io), T11 IO (164) (io), T15 VCCIO4 (power), T17 IO (236) (io), T18 IO (239) (io), T19 IO (241) (io), T20 IO (246) (io), T21 IO (248) (io), U7 IO (142) (io), U8 IO (145) (io), U9 IO (153) (io), U10 IO (156) (io), U11 IO (160) (io), U12 IO (159) (io), U19 IO (233) (io), U20 IO (240) (io), U21 IO (244) (io), V5 IO (134) (io), V6 IO (140) (io), V7 IO (141) (io), V8 IO (146) (io), V9 IO (152) (io), V10 IO (158) (io), V19 IO (230) (io), V20 IO (234) (io), V21 IO (238) (io), W6 IO (139) (io), W7 IO (138) (io), W8 IO (147) (io), W9 IO (151) (io), W19 IO (228) (io), W20 IO (232) (io), W21 IO (235) (io), Y5 IO (133) (io), Y6 IO (135) (io), Y7 IO (144) (io), Y8 IO (150) (io), Y9 IO (148) (io), Y10 IO (165) (io), Y19 IO (226) (io), Y20 IO (227) (io), Y21 IO (229) (io)
part C pins: D12 TRST (376) (in), E11 TDO (386) (out), E12 nCEO (377) (out), L4 DATA0 (63) (in), L5 DCLK (64) (in), L18 MSEL1 (278) (in), L19 MSEL0 (279) (in), M4 nCE (66) (in), M5 TDI (67) (in), M14 CLKLK_ENA (276) (in), M19 nCONFIG (275) (in), P5 CLKLK_OUT2p (79) (out), R6 CLKLK_FB2p (58) (in), W10 CONF_DONE (166) (io), W11 nSTATUS (167) (io), W12 TCK (178) (in), W13 TMS (179) (in)
part D pins: A1 GND (power), A11 GND (power), A22 GND (power), AA1 VCCINT (power), AA2 GND (power), AA21 GND (power), AA22 VCCINT (power), AB1 GND (power), AB11 GND (power), AB22 GND (power), B1 VCCINT (power), B2 GND (power), B21 GND (power), B22 VCCINT (power), F6 GND (power), F17 GND (power), G7 GND (power), G16 GND (power), H8 GND (power), H9 VCCINT (power), H15 GND (power), J8 VCCINT (power), J9 GND (power), J11 GND (power), J13 VCCINT (power), J14 GND (power), K10 GND (power), K11 VCCINT (power), K13 GND (power), K14 VCCINT (power), L2 GND (power), L9 VCC_CKLK2 (72) (power), L10 VCCINT (power), L11 GND (power), L12 GND (power), M1 GND (power), M8 VCC_CKLK4 (49) (power), M9 GND_CKLK2 (69/70) (power), M11 GND (power), M12 GND (power), M13 VCCINT (power), M21 GND (power), M22 VCCINT (power), N8 GND_CKLK4 (50/51) (power), N9 VCCINT (power), N10 GND (power), N12 VCCINT (power), N13 GND (power), P9 GND (power), P10 VCCINT (power), P14 GND (power), P15 VCCINT (power), R7 VCCINT (power), R8 GND (power), R14 VCCINT (power), R15 GND (power), T4 GND_CKOUT2 (75) (power), T5 VCC_CKOUT2 (74) (power), T7 GND (power), T16 GND (power), U6 GND (power), U17 GND (power)
part E pins: A2 NC, A3 NC, A4 NC, A5 NC, A6 NC, A7 NC, A8 NC, A9 NC, A10 NC, A12 NC, A13 NC, A14 NC, A15 NC, A16 NC, A17 NC, A18 NC, A19 NC, A20 NC, A21 NC, AB2 NC, AB3 NC, AB4 NC, AB5 NC, AB6 NC, AB7 NC, AB8 NC, AB9 NC, AB10 NC, AB12 NC, AB13 NC, AB14 NC, AB15 NC, AB16 NC, AB17 NC, AB18 NC, AB19 NC, AB20 NC, AB21 NC, C1 NC, C22 NC, D1 NC, D22 NC, E1 NC, E22 NC, F1 NC, F22 NC, G1 NC, G22 NC, H1 NC, H22 NC, J1 NC, J22 NC, K1 NC, K22 NC, N1 NC, N22 NC, P1 NC, P22 NC, R1 NC, R22 NC, T1 NC, T22 NC, U1 NC, U22 NC, V1 NC, V22 NC, W1 NC, W22 NC, Y1 NC, Y22 NC

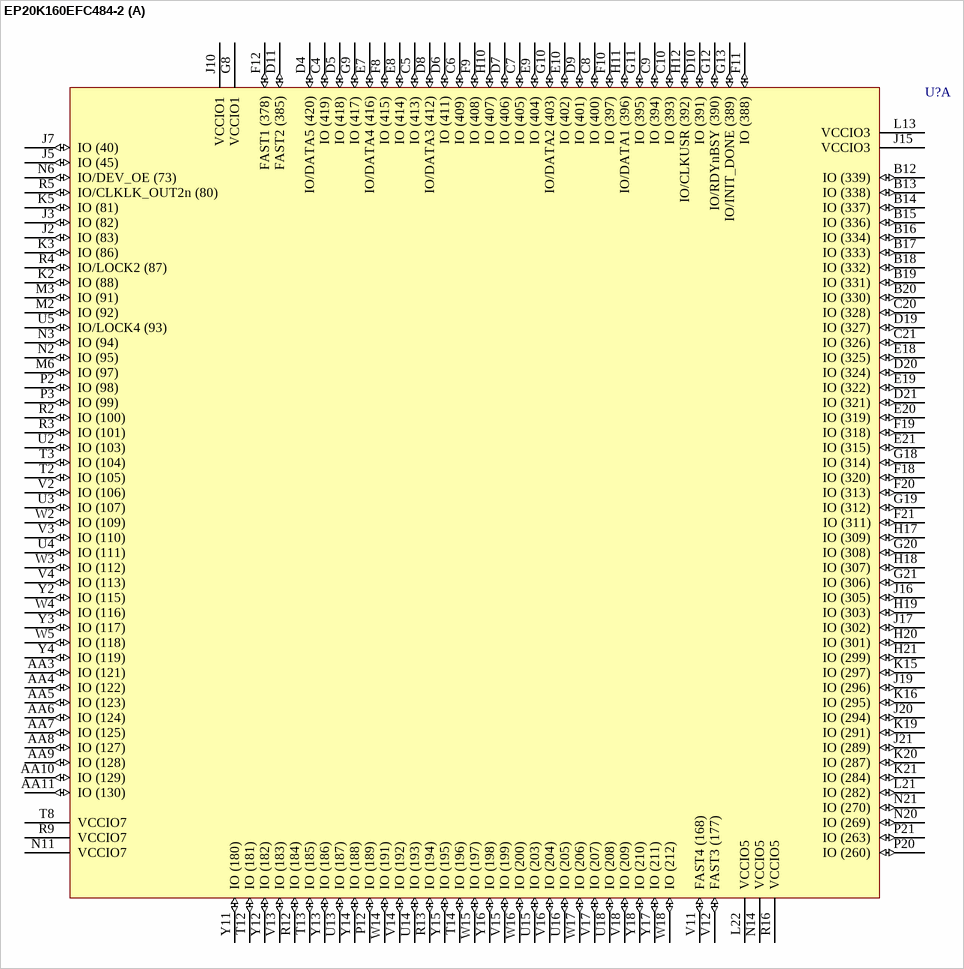
[diagram p127: symbol EP20K160EFC484-2]

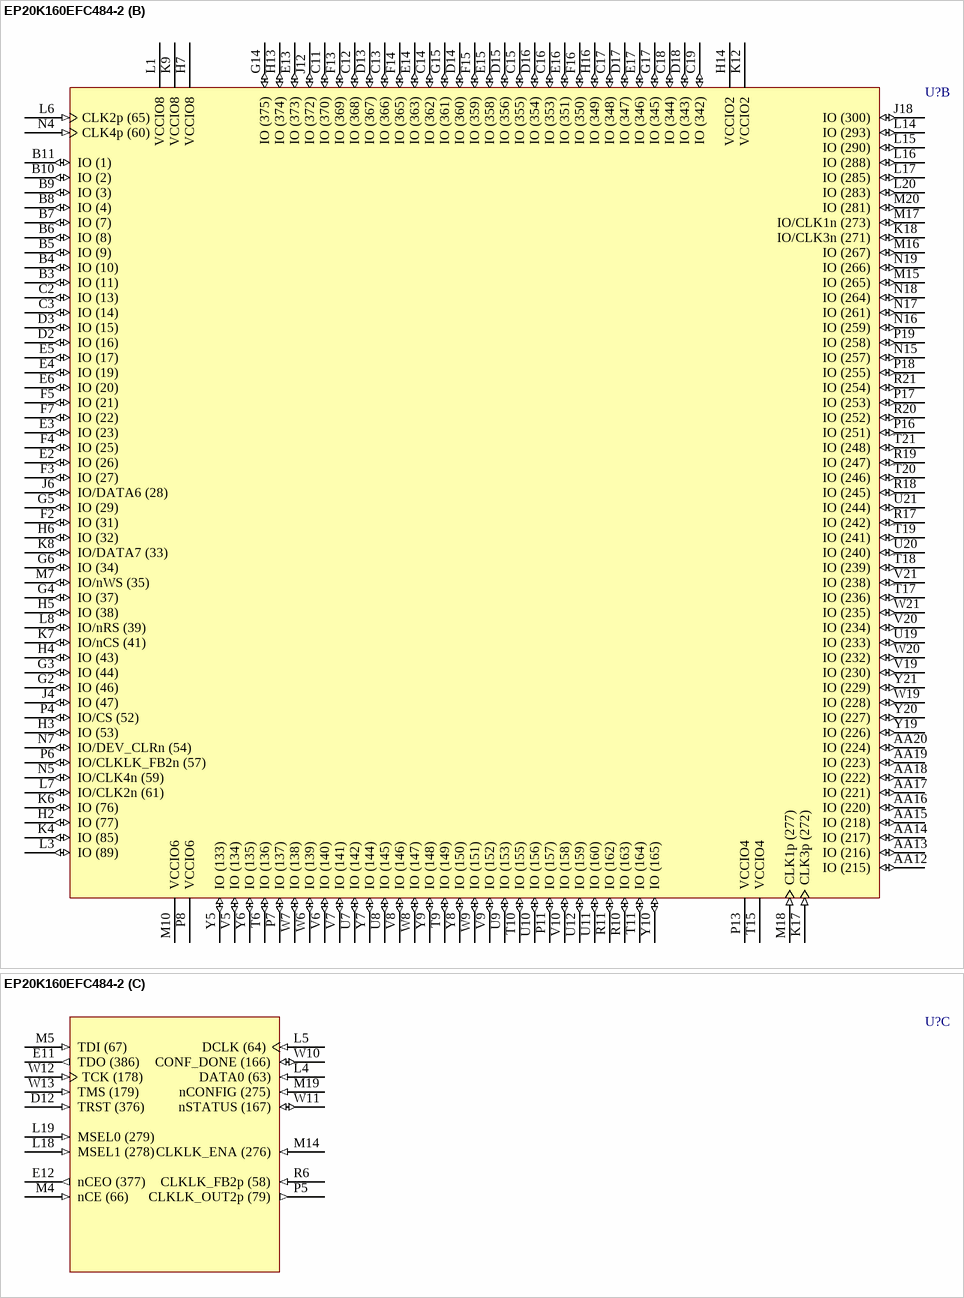
[diagram p128: symbol EP20K160EFC484-2]

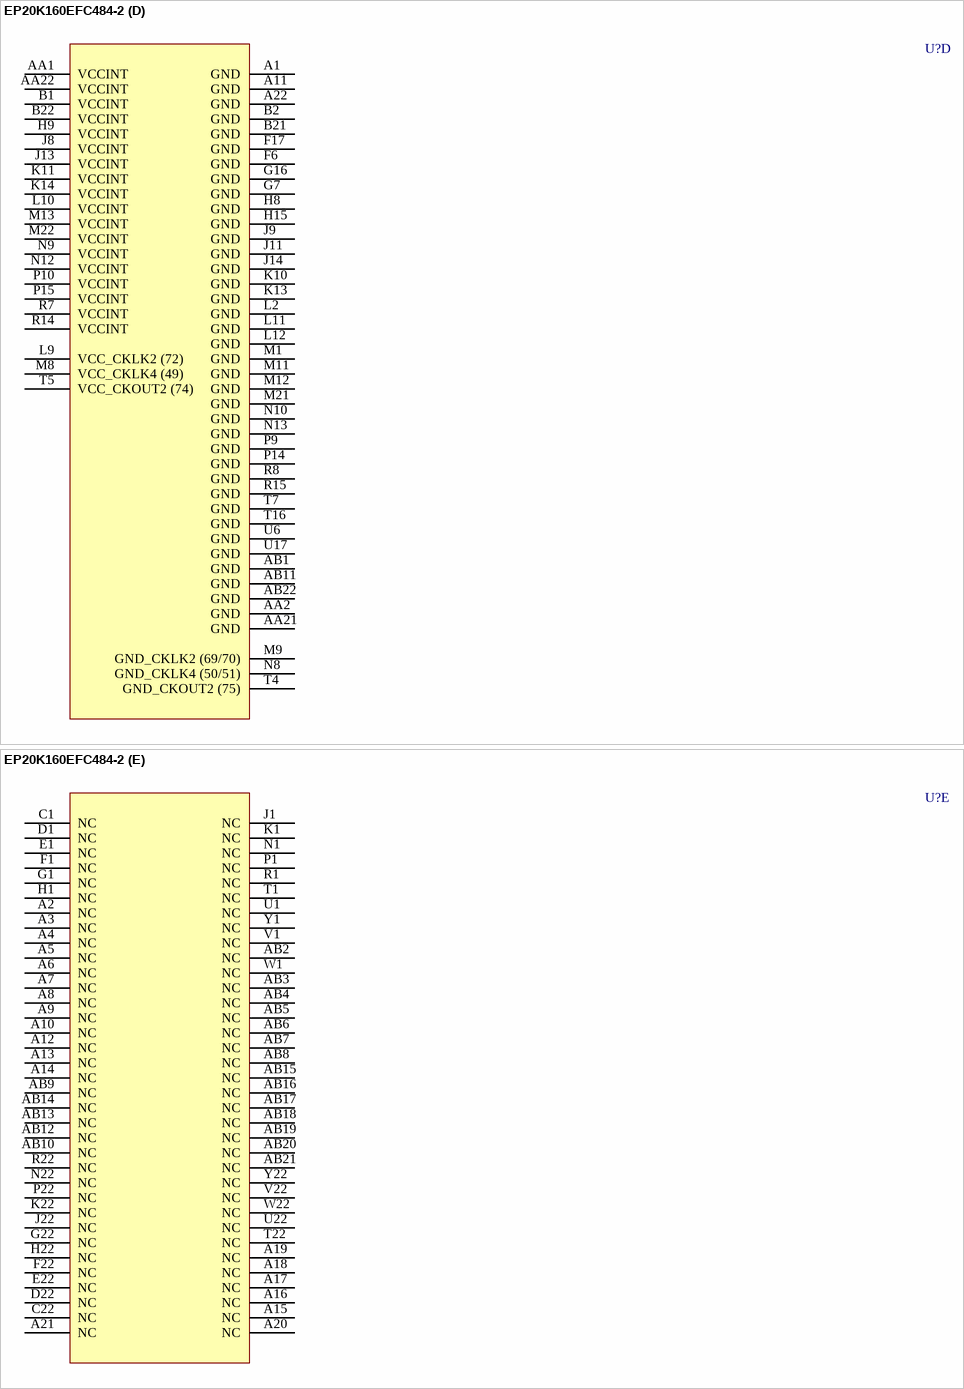
[diagram p129: symbol EP20K160EFC484-2]

## EP20K160EFC484-2
designator U?
APEX 20K160E PLD, 484-Pin FBGA, Commercial Grade, Speed Grade 2; Published: 17-Jul-2002; LatestRevisionDate: 13-Apr-2006; LatestRevisionNote: IPC-7351 Footprint Added.; DatasheetVersion: Mar-2004; PackageVersion: ver14.1, Oct-2005; PackageReference: FBGA484; Publisher: Altium Limited; PackageDescription: 484-Ball FineLine Ball Grid Array (FBGA484) - Flip Chip; Code_JEDEC: MS-034-AAJ-1; Code_IPC: BGA100P22X22-484; ComponentLink1Description: Manufacturer Link; ComponentLink1URL: http://www.altera.com/products/devices/apex/apx-index.html; ComponentLink2Description: Datasheet; ComponentLink2URL: http://www.altera.com/literature/ds/apex.pdf
footprint FBGA484 (BGA, 484-Leads, Body 23x23mm, Pitch 1mm)
3D model EP20K160E-FBGA484 (484-Ball FineLine Ball Grid Array (FBGA484) - Flip Chip)
part A pins: AA3 IO (121) (io), AA4 IO (122) (io), AA5 IO (123) (io), AA6 IO (124) (io), AA7 IO (125) (io), AA8 IO (127) (io), AA9 IO (128) (io), AA10 IO (129) (io), AA11 IO (130) (io), B12 IO (339) (io), B13 IO (338) (io), B14 IO (337) (io), B15 IO (336) (io), B16 IO (334) (io), B17 IO (333) (io), B18 IO (332) (io), B19 IO (331) (io), B20 IO (330) (io), C4 IO (419) (io), C5 IO (413) (io), C6 IO (409) (io), C7 IO (405) (io), C8 IO (400) (io), C9 IO (394) (io), C10 IO (393) (io), C20 IO (328) (io), C21 IO (326) (io), D4 IO/DATA5 (420) (io), D5 IO (418) (io), D6 IO (411) (io), D7 IO (406) (io), D8 IO/DATA3 (412) (io), D9 IO (401) (io), D10 IO (391) (io), D11 FAST2 (385) (io), D19 IO (327) (io), D20 IO (324) (io), D21 IO (321) (io), E7 IO/DATA4 (416) (io), E8 IO (414) (io), E9 IO (404) (io), E10 IO (402) (io), E18 IO (325) (io), E19 IO (322) (io), E20 IO (319) (io), E21 IO (315) (io), F8 IO (415) (io), F9 IO (408) (io), F10 IO (397) (io), F11 IO (388) (io), F12 FAST1 (378) (io), F18 IO (320) (io), F19 IO (318) (io), F20 IO (313) (io), F21 IO (311) (io), G8 VCCIO1 (power), G9 IO (417) (io), G10 IO/DATA2 (403) (io), G11 IO (395) (io), G12 IO/RDYnBSY (390) (io), G13 IO/INIT_DONE (389) (io), G18 IO (314) (io), G19 IO (312) (io), G20 IO (308) (io), G21 IO (306) (io), H10 IO (407) (io), H11 IO/DATA1 (396) (io), H12 IO/CLKUSR (392) (io), H17 IO (309) (io), H18 IO (307) (io), H19 IO (303) (io), H20 IO (301) (io), H21 IO (299) (io), J2 IO (83) (io), J3 IO (82) (io), J5 IO (45) (io), J7 IO (40) (io), J10 VCCIO1 (power), J15 VCCIO3 (power), J16 IO (305) (io), J17 IO (302) (io), J19 IO (296) (io), J20 IO (294) (io), J21 IO (289) (io), K2 IO (88) (io), K3 IO (86) (io), K5 IO (81) (io), K15 IO (297) (io), K16 IO (295) (io), K19 IO (291) (io), K20 IO (287) (io), K21 IO (284) (io), L13 VCCIO3 (power), L21 IO (282) (io), L22 VCCIO5 (power), M2 IO (92) (io), M3 IO (91) (io), M6 IO (97) (io), N2 IO (95) (io), N3 IO (94) (io), N6 IO/DEV_OE (73) (io), N11 VCCIO7 (power), N14 VCCIO5 (power), N20 IO (269) (io), N21 IO (270) (io), P2 IO (98) (io), P3 IO (99) (io), P12 IO (189) (io), P20 IO (260) (io), P21 IO (263) (io), R2 IO (100) (io), R3 IO (101) (io), R4 IO/LOCK2 (87) (io), R5 IO/CLKLK_OUT2n (80) (io), R9 VCCIO7 (power), R12 IO (184) (io), R13 IO (194) (io), R16 VCCIO5 (power), T2 IO (105) (io), T3 IO (104) (io), T8 VCCIO7 (power), T12 IO (181) (io), T13 IO (185) (io), T14 IO (196) (io), U2 IO (103) (io), U3 IO (107) (io), U4 IO (111) (io), U5 IO/LOCK4 (93) (io), U13 IO (187) (io), U14 IO (193) (io), U15 IO (203) (io), U16 IO (205) (io), U18 IO (208) (io), V2 IO (106) (io), V3 IO (110) (io), V4 IO (113) (io), V11 FAST4 (168) (io), V12 FAST3 (177) (io), V13 IO (183) (io), V14 IO (192) (io), V15 IO (199) (io), V16 IO (204) (io), V17 IO (207) (io), V18 IO (209) (io), W2 IO (109) (io), W3 IO (112) (io), W4 IO (116) (io), W5 IO (118) (io), W14 IO (191) (io), W15 IO (197) (io), W16 IO (200) (io), W17 IO (206) (io), W18 IO (212) (io), Y2 IO (115) (io), Y3 IO (117) (io), Y4 IO (119) (io), Y11 IO (180) (io), Y12 IO (182) (io), Y13 IO (186) (io), Y14 IO (188) (io), Y15 IO (195) (io), Y16 IO (198) (io), Y17 IO (211) (io), Y18 IO (210) (io)
part B pins: AA12 IO (215) (io), AA13 IO (216) (io), AA14 IO (217) (io), AA15 IO (218) (io), AA16 IO (220) (io), AA17 IO (221) (io), AA18 IO (222) (io), AA19 IO (223) (io), AA20 IO (224) (io), B3 IO (11) (io), B4 IO (10) (io), B5 IO (9) (io), B6 IO (8) (io), B7 IO (7) (io), B8 IO (4) (io), B9 IO (3) (io), B10 IO (2) (io), B11 IO (1) (io), C2 IO (13) (io), C3 IO (14) (io), C11 IO (370) (io), C12 IO (368) (io), C13 IO (366) (io), C14 IO (362) (io), C15 IO (355) (io), C16 IO (353) (io), C17 IO (348) (io), C18 IO (344) (io), C19 IO (342) (io), D2 IO (16) (io), D3 IO (15) (io), D13 IO (367) (io), D14 IO (360) (io), D15 IO (356) (io), D16 IO (354) (io), D17 IO (347) (io), D18 IO (343) (io), E2 IO (26) (io), E3 IO (23) (io), E4 IO (19) (io), E5 IO (17) (io), E6 IO (20) (io), E13 IO (373) (io), E14 IO (363) (io), E15 IO (358) (io), E16 IO (351) (io), E17 IO (346) (io), F2 IO (31) (io), F3 IO (27) (io), F4 IO (25) (io), F5 IO (21) (io), F7 IO (22) (io), F13 IO (369) (io), F14 IO (365) (io), F15 IO (359) (io), F16 IO (350) (io), G2 IO (46) (io), G3 IO (44) (io), G4 IO (37) (io), G5 IO (29) (io), G6 IO (34) (io), G14 IO (375) (io), G15 IO (361) (io), G17 IO (345) (io), H2 IO (77) (io), H3 IO (53) (io), H4 IO (43) (io), H5 IO (38) (io), H6 IO (32) (io), H7 VCCIO8 (power), H13 IO (374) (io), H14 VCCIO2 (power), H16 IO (349) (io), J4 IO (47) (io), J6 IO/DATA6 (28) (io), J12 IO (372) (io), J18 IO (300) (io), K4 IO (85) (io), K6 IO (76) (io), K7 IO/nCS (41) (io), K8 IO/DATA7 (33) (io), K9 VCCIO8 (power), K12 VCCIO2 (power), K17 CLK3p (272) (in), K18 IO/CLK3n (271) (io), L1 VCCIO8 (power), L3 IO (89) (io), L6 CLK2p (65) (in), L7 IO/CLK2n (61) (io), L8 IO/nRS (39) (io), L14 IO (293) (io), L15 IO (290) (io), L16 IO (288) (io), L17 IO (285) (io), L20 IO (283) (io), M7 IO/nWS (35) (io), M10 VCCIO6 (power), M15 IO (265) (io), M16 IO (267) (io), M17 IO/CLK1n (273) (io), M18 CLK1p (277) (in), M20 IO (281) (io), N4 CLK4p (60) (in), N5 IO/CLK4n (59) (io), N7 IO/DEV_CLRn (54) (io), N15 IO (257) (io), N16 IO (259) (io), N17 IO (261) (io), N18 IO (264) (io), N19 IO (266) (io), P4 IO/CS (52) (io), P6 IO/CLKLK_FB2n (57) (io), P7 IO (137) (io), P8 VCCIO6 (power), P11 IO (157) (io), P13 VCCIO4 (power), P16 IO (251) (io), P17 IO (253) (io), P18 IO (255) (io), P19 IO (258) (io), R10 IO (163) (io), R11 IO (162) (io), R17 IO (242) (io), R18 IO (245) (io), R19 IO (247) (io), R20 IO (252) (io), R21 IO (254) (io), T6 IO (136) (io), T9 IO (149) (io), T10 IO (155) (io), T11 IO (164) (io), T15 VCCIO4 (power), T17 IO (236) (io), T18 IO (239) (io), T19 IO (241) (io), T20 IO (246) (io), T21 IO (248) (io), U7 IO (142) (io), U8 IO (145) (io), U9 IO (153) (io), U10 IO (156) (io), U11 IO (160) (io), U12 IO (159) (io), U19 IO (233) (io), U20 IO (240) (io), U21 IO (244) (io), V5 IO (134) (io), V6 IO (140) (io), V7 IO (141) (io), V8 IO (146) (io), V9 IO (152) (io), V10 IO (158) (io), V19 IO (230) (io), V20 IO (234) (io), V21 IO (238) (io), W6 IO (139) (io), W7 IO (138) (io), W8 IO (147) (io), W9 IO (151) (io), W19 IO (228) (io), W20 IO (232) (io), W21 IO (235) (io), Y5 IO (133) (io), Y6 IO (135) (io), Y7 IO (144) (io), Y8 IO (150) (io), Y9 IO (148) (io), Y10 IO (165) (io), Y19 IO (226) (io), Y20 IO (227) (io), Y21 IO (229) (io)
part C pins: D12 TRST (376) (in), E11 TDO (386) (out), E12 nCEO (377) (out), L4 DATA0 (63) (in), L5 DCLK (64) (in), L18 MSEL1 (278) (in), L19 MSEL0 (279) (in), M4 nCE (66) (in), M5 TDI (67) (in), M14 CLKLK_ENA (276) (in), M19 nCONFIG (275) (in), P5 CLKLK_OUT2p (79) (out), R6 CLKLK_FB2p (58) (in), W10 CONF_DONE (166) (io), W11 nSTATUS (167) (io), W12 TCK (178) (in), W13 TMS (179) (in)
part D pins: A1 GND (power), A11 GND (power), A22 GND (power), AA1 VCCINT (power), AA2 GND (power), AA21 GND (power), AA22 VCCINT (power), AB1 GND (power), AB11 GND (power), AB22 GND (power), B1 VCCINT (power), B2 GND (power), B21 GND (power), B22 VCCINT (power), F6 GND (power), F17 GND (power), G7 GND (power), G16 GND (power), H8 GND (power), H9 VCCINT (power), H15 GND (power), J8 VCCINT (power), J9 GND (power), J11 GND (power), J13 VCCINT (power), J14 GND (power), K10 GND (power), K11 VCCINT (power), K13 GND (power), K14 VCCINT (power), L2 GND (power), L9 VCC_CKLK2 (72) (power), L10 VCCINT (power), L11 GND (power), L12 GND (power), M1 GND (power), M8 VCC_CKLK4 (49) (power), M9 GND_CKLK2 (69/70) (power), M11 GND (power), M12 GND (power), M13 VCCINT (power), M21 GND (power), M22 VCCINT (power), N8 GND_CKLK4 (50/51) (power), N9 VCCINT (power), N10 GND (power), N12 VCCINT (power), N13 GND (power), P9 GND (power), P10 VCCINT (power), P14 GND (power), P15 VCCINT (power), R7 VCCINT (power), R8 GND (power), R14 VCCINT (power), R15 GND (power), T4 GND_CKOUT2 (75) (power), T5 VCC_CKOUT2 (74) (power), T7 GND (power), T16 GND (power), U6 GND (power), U17 GND (power)
part E pins: A2 NC, A3 NC, A4 NC, A5 NC, A6 NC, A7 NC, A8 NC, A9 NC, A10 NC, A12 NC, A13 NC, A14 NC, A15 NC, A16 NC, A17 NC, A18 NC, A19 NC, A20 NC, A21 NC, AB2 NC, AB3 NC, AB4 NC, AB5 NC, AB6 NC, AB7 NC, AB8 NC, AB9 NC, AB10 NC, AB12 NC, AB13 NC, AB14 NC, AB15 NC, AB16 NC, AB17 NC, AB18 NC, AB19 NC, AB20 NC, AB21 NC, C1 NC, C22 NC, D1 NC, D22 NC, E1 NC, E22 NC, F1 NC, F22 NC, G1 NC, G22 NC, H1 NC, H22 NC, J1 NC, J22 NC, K1 NC, K22 NC, N1 NC, N22 NC, P1 NC, P22 NC, R1 NC, R22 NC, T1 NC, T22 NC, U1 NC, U22 NC, V1 NC, V22 NC, W1 NC, W22 NC, Y1 NC, Y22 NC

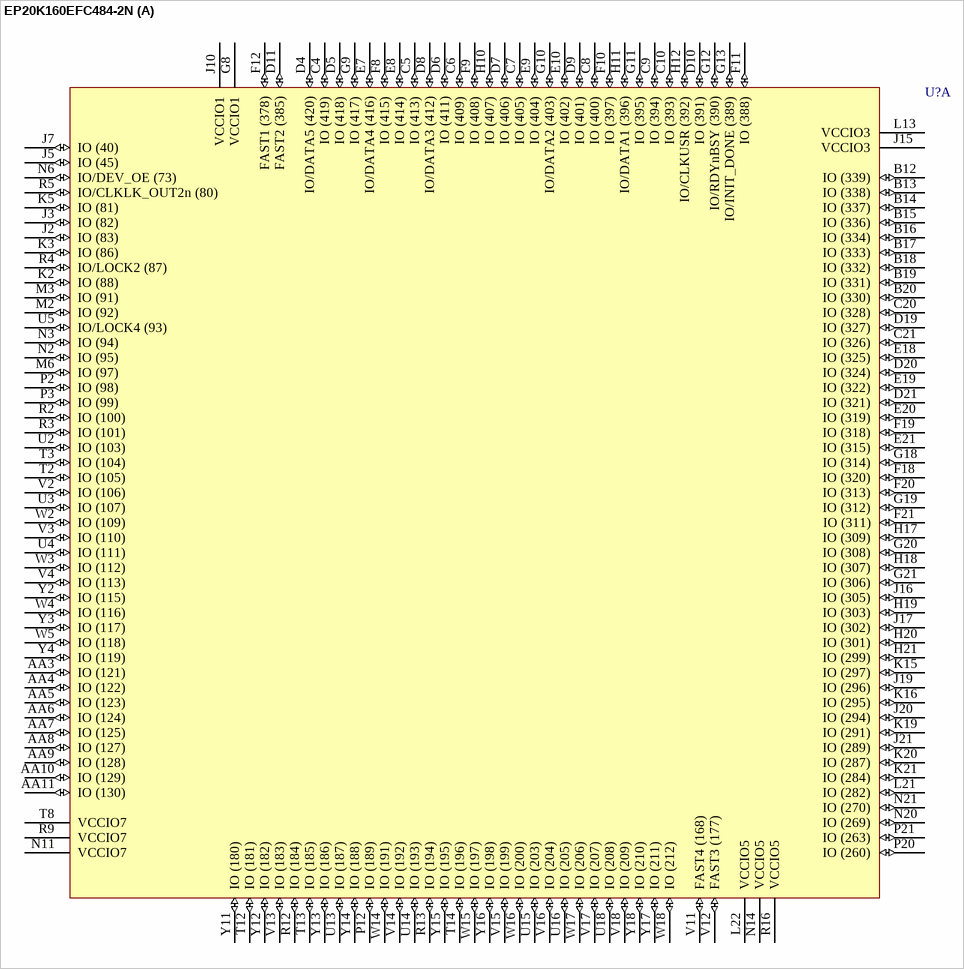
[diagram p130: symbol EP20K160EFC484-2N]

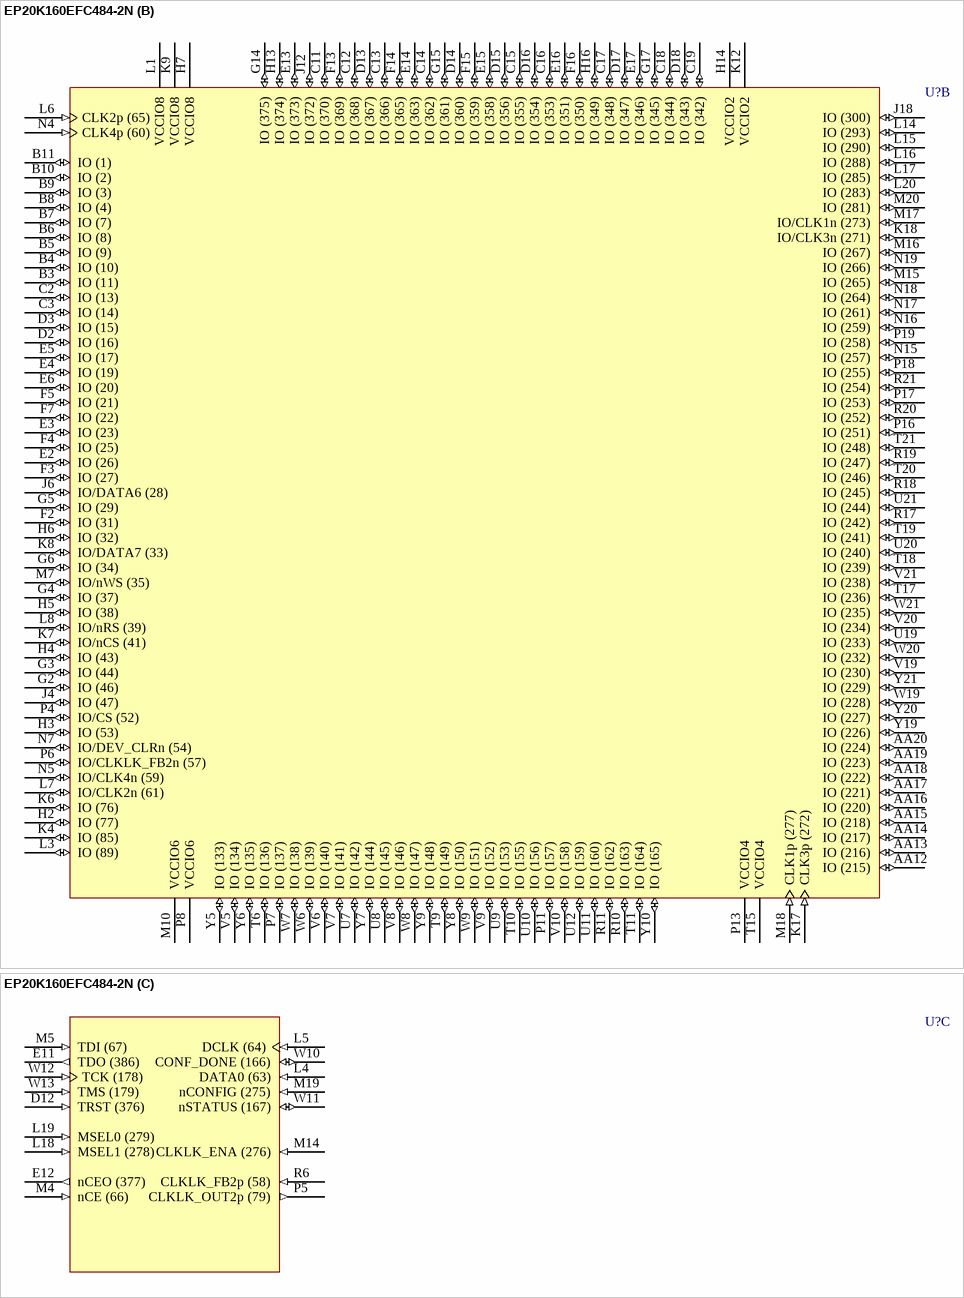
[diagram p131: symbol EP20K160EFC484-2N]

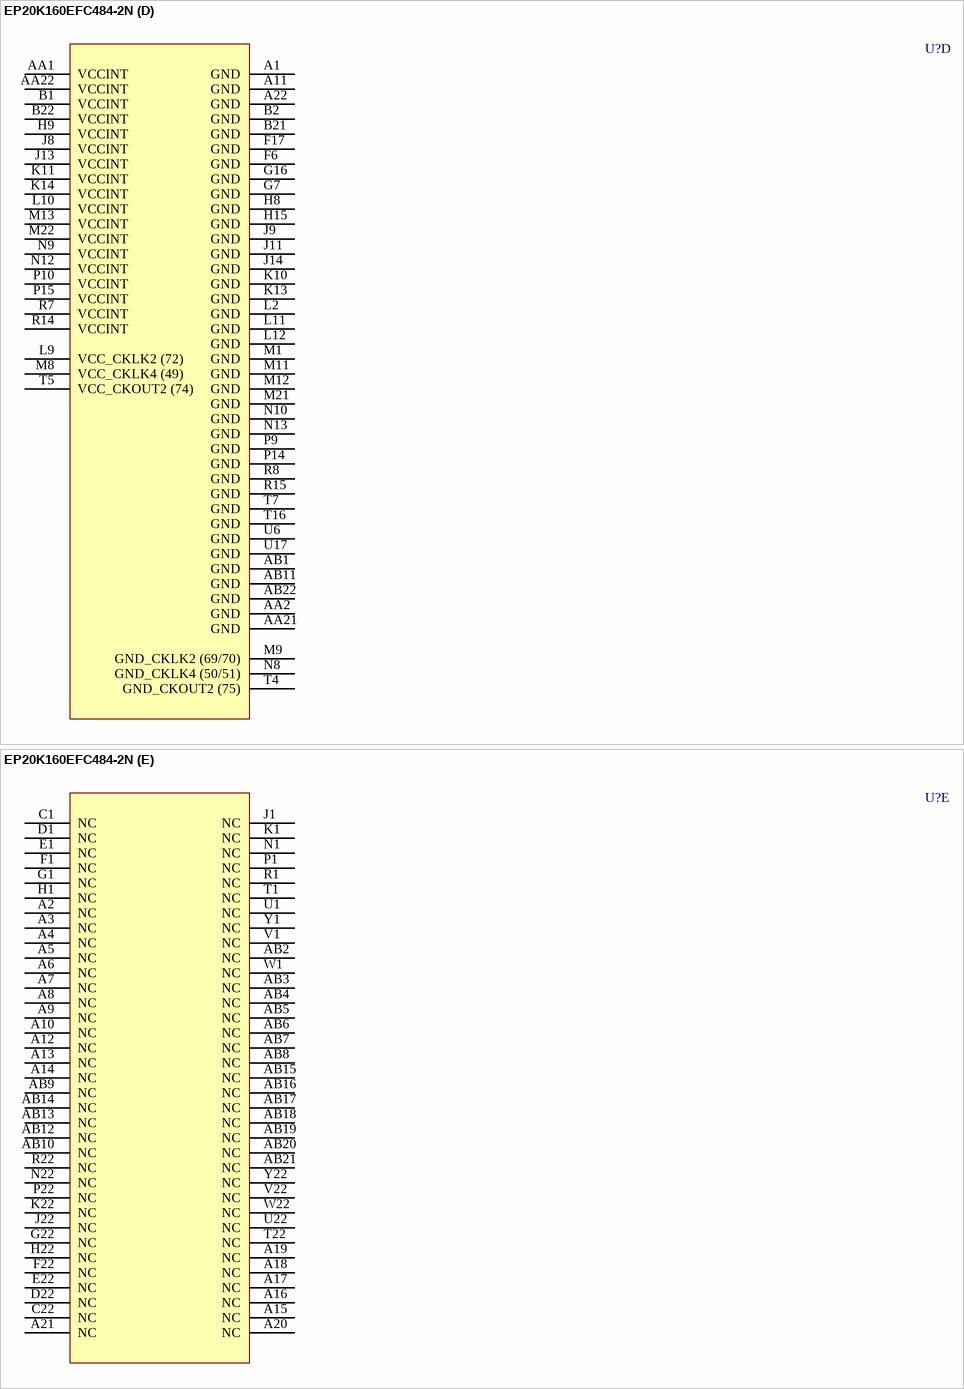
[diagram p132: symbol EP20K160EFC484-2N]

## EP20K160EFC484-2N
designator U?
APEX 20K160E PLD, 484-Pin FBGA, Pb-Free, Commercial Grade, Speed Grade 2; Published: 4-Mar-2005; LatestRevisionDate: 13-Apr-2006; LatestRevisionNote: IPC-7351 Footprint Added.; DatasheetVersion: Mar-2004; PackageVersion: ver14.1, Oct-2005; PackageReference: FBGA484; Publisher: Altium Limited; PackageDescription: 484-Ball FineLine Ball Grid Array (FBGA484) - Flip Chip; Code_JEDEC: MS-034-AAJ-1; Code_IPC: BGA100P22X22-484; ComponentLink1Description: Manufacturer Link; ComponentLink1URL: http://www.altera.com/products/devices/apex/apx-index.html; ComponentLink2Description: Datasheet; ComponentLink2URL: http://www.altera.com/literature/ds/apex.pdf
footprint FBGA484 (BGA, 484-Leads, Body 23x23mm, Pitch 1mm)
3D model EP20K160E-FBGA484 (484-Ball FineLine Ball Grid Array (FBGA484) - Flip Chip)
part A pins: AA3 IO (121) (io), AA4 IO (122) (io), AA5 IO (123) (io), AA6 IO (124) (io), AA7 IO (125) (io), AA8 IO (127) (io), AA9 IO (128) (io), AA10 IO (129) (io), AA11 IO (130) (io), B12 IO (339) (io), B13 IO (338) (io), B14 IO (337) (io), B15 IO (336) (io), B16 IO (334) (io), B17 IO (333) (io), B18 IO (332) (io), B19 IO (331) (io), B20 IO (330) (io), C4 IO (419) (io), C5 IO (413) (io), C6 IO (409) (io), C7 IO (405) (io), C8 IO (400) (io), C9 IO (394) (io), C10 IO (393) (io), C20 IO (328) (io), C21 IO (326) (io), D4 IO/DATA5 (420) (io), D5 IO (418) (io), D6 IO (411) (io), D7 IO (406) (io), D8 IO/DATA3 (412) (io), D9 IO (401) (io), D10 IO (391) (io), D11 FAST2 (385) (io), D19 IO (327) (io), D20 IO (324) (io), D21 IO (321) (io), E7 IO/DATA4 (416) (io), E8 IO (414) (io), E9 IO (404) (io), E10 IO (402) (io), E18 IO (325) (io), E19 IO (322) (io), E20 IO (319) (io), E21 IO (315) (io), F8 IO (415) (io), F9 IO (408) (io), F10 IO (397) (io), F11 IO (388) (io), F12 FAST1 (378) (io), F18 IO (320) (io), F19 IO (318) (io), F20 IO (313) (io), F21 IO (311) (io), G8 VCCIO1 (power), G9 IO (417) (io), G10 IO/DATA2 (403) (io), G11 IO (395) (io), G12 IO/RDYnBSY (390) (io), G13 IO/INIT_DONE (389) (io), G18 IO (314) (io), G19 IO (312) (io), G20 IO (308) (io), G21 IO (306) (io), H10 IO (407) (io), H11 IO/DATA1 (396) (io), H12 IO/CLKUSR (392) (io), H17 IO (309) (io), H18 IO (307) (io), H19 IO (303) (io), H20 IO (301) (io), H21 IO (299) (io), J2 IO (83) (io), J3 IO (82) (io), J5 IO (45) (io), J7 IO (40) (io), J10 VCCIO1 (power), J15 VCCIO3 (power), J16 IO (305) (io), J17 IO (302) (io), J19 IO (296) (io), J20 IO (294) (io), J21 IO (289) (io), K2 IO (88) (io), K3 IO (86) (io), K5 IO (81) (io), K15 IO (297) (io), K16 IO (295) (io), K19 IO (291) (io), K20 IO (287) (io), K21 IO (284) (io), L13 VCCIO3 (power), L21 IO (282) (io), L22 VCCIO5 (power), M2 IO (92) (io), M3 IO (91) (io), M6 IO (97) (io), N2 IO (95) (io), N3 IO (94) (io), N6 IO/DEV_OE (73) (io), N11 VCCIO7 (power), N14 VCCIO5 (power), N20 IO (269) (io), N21 IO (270) (io), P2 IO (98) (io), P3 IO (99) (io), P12 IO (189) (io), P20 IO (260) (io), P21 IO (263) (io), R2 IO (100) (io), R3 IO (101) (io), R4 IO/LOCK2 (87) (io), R5 IO/CLKLK_OUT2n (80) (io), R9 VCCIO7 (power), R12 IO (184) (io), R13 IO (194) (io), R16 VCCIO5 (power), T2 IO (105) (io), T3 IO (104) (io), T8 VCCIO7 (power), T12 IO (181) (io), T13 IO (185) (io), T14 IO (196) (io), U2 IO (103) (io), U3 IO (107) (io), U4 IO (111) (io), U5 IO/LOCK4 (93) (io), U13 IO (187) (io), U14 IO (193) (io), U15 IO (203) (io), U16 IO (205) (io), U18 IO (208) (io), V2 IO (106) (io), V3 IO (110) (io), V4 IO (113) (io), V11 FAST4 (168) (io), V12 FAST3 (177) (io), V13 IO (183) (io), V14 IO (192) (io), V15 IO (199) (io), V16 IO (204) (io), V17 IO (207) (io), V18 IO (209) (io), W2 IO (109) (io), W3 IO (112) (io), W4 IO (116) (io), W5 IO (118) (io), W14 IO (191) (io), W15 IO (197) (io), W16 IO (200) (io), W17 IO (206) (io), W18 IO (212) (io), Y2 IO (115) (io), Y3 IO (117) (io), Y4 IO (119) (io), Y11 IO (180) (io), Y12 IO (182) (io), Y13 IO (186) (io), Y14 IO (188) (io), Y15 IO (195) (io), Y16 IO (198) (io), Y17 IO (211) (io), Y18 IO (210) (io)
part B pins: AA12 IO (215) (io), AA13 IO (216) (io), AA14 IO (217) (io), AA15 IO (218) (io), AA16 IO (220) (io), AA17 IO (221) (io), AA18 IO (222) (io), AA19 IO (223) (io), AA20 IO (224) (io), B3 IO (11) (io), B4 IO (10) (io), B5 IO (9) (io), B6 IO (8) (io), B7 IO (7) (io), B8 IO (4) (io), B9 IO (3) (io), B10 IO (2) (io), B11 IO (1) (io), C2 IO (13) (io), C3 IO (14) (io), C11 IO (370) (io), C12 IO (368) (io), C13 IO (366) (io), C14 IO (362) (io), C15 IO (355) (io), C16 IO (353) (io), C17 IO (348) (io), C18 IO (344) (io), C19 IO (342) (io), D2 IO (16) (io), D3 IO (15) (io), D13 IO (367) (io), D14 IO (360) (io), D15 IO (356) (io), D16 IO (354) (io), D17 IO (347) (io), D18 IO (343) (io), E2 IO (26) (io), E3 IO (23) (io), E4 IO (19) (io), E5 IO (17) (io), E6 IO (20) (io), E13 IO (373) (io), E14 IO (363) (io), E15 IO (358) (io), E16 IO (351) (io), E17 IO (346) (io), F2 IO (31) (io), F3 IO (27) (io), F4 IO (25) (io), F5 IO (21) (io), F7 IO (22) (io), F13 IO (369) (io), F14 IO (365) (io), F15 IO (359) (io), F16 IO (350) (io), G2 IO (46) (io), G3 IO (44) (io), G4 IO (37) (io), G5 IO (29) (io), G6 IO (34) (io), G14 IO (375) (io), G15 IO (361) (io), G17 IO (345) (io), H2 IO (77) (io), H3 IO (53) (io), H4 IO (43) (io), H5 IO (38) (io), H6 IO (32) (io), H7 VCCIO8 (power), H13 IO (374) (io), H14 VCCIO2 (power), H16 IO (349) (io), J4 IO (47) (io), J6 IO/DATA6 (28) (io), J12 IO (372) (io), J18 IO (300) (io), K4 IO (85) (io), K6 IO (76) (io), K7 IO/nCS (41) (io), K8 IO/DATA7 (33) (io), K9 VCCIO8 (power), K12 VCCIO2 (power), K17 CLK3p (272) (in), K18 IO/CLK3n (271) (io), L1 VCCIO8 (power), L3 IO (89) (io), L6 CLK2p (65) (in), L7 IO/CLK2n (61) (io), L8 IO/nRS (39) (io), L14 IO (293) (io), L15 IO (290) (io), L16 IO (288) (io), L17 IO (285) (io), L20 IO (283) (io), M7 IO/nWS (35) (io), M10 VCCIO6 (power), M15 IO (265) (io), M16 IO (267) (io), M17 IO/CLK1n (273) (io), M18 CLK1p (277) (in), M20 IO (281) (io), N4 CLK4p (60) (in), N5 IO/CLK4n (59) (io), N7 IO/DEV_CLRn (54) (io), N15 IO (257) (io), N16 IO (259) (io), N17 IO (261) (io), N18 IO (264) (io), N19 IO (266) (io), P4 IO/CS (52) (io), P6 IO/CLKLK_FB2n (57) (io), P7 IO (137) (io), P8 VCCIO6 (power), P11 IO (157) (io), P13 VCCIO4 (power), P16 IO (251) (io), P17 IO (253) (io), P18 IO (255) (io), P19 IO (258) (io), R10 IO (163) (io), R11 IO (162) (io), R17 IO (242) (io), R18 IO (245) (io), R19 IO (247) (io), R20 IO (252) (io), R21 IO (254) (io), T6 IO (136) (io), T9 IO (149) (io), T10 IO (155) (io), T11 IO (164) (io), T15 VCCIO4 (power), T17 IO (236) (io), T18 IO (239) (io), T19 IO (241) (io), T20 IO (246) (io), T21 IO (248) (io), U7 IO (142) (io), U8 IO (145) (io), U9 IO (153) (io), U10 IO (156) (io), U11 IO (160) (io), U12 IO (159) (io), U19 IO (233) (io), U20 IO (240) (io), U21 IO (244) (io), V5 IO (134) (io), V6 IO (140) (io), V7 IO (141) (io), V8 IO (146) (io), V9 IO (152) (io), V10 IO (158) (io), V19 IO (230) (io), V20 IO (234) (io), V21 IO (238) (io), W6 IO (139) (io), W7 IO (138) (io), W8 IO (147) (io), W9 IO (151) (io), W19 IO (228) (io), W20 IO (232) (io), W21 IO (235) (io), Y5 IO (133) (io), Y6 IO (135) (io), Y7 IO (144) (io), Y8 IO (150) (io), Y9 IO (148) (io), Y10 IO (165) (io), Y19 IO (226) (io), Y20 IO (227) (io), Y21 IO (229) (io)
part C pins: D12 TRST (376) (in), E11 TDO (386) (out), E12 nCEO (377) (out), L4 DATA0 (63) (in), L5 DCLK (64) (in), L18 MSEL1 (278) (in), L19 MSEL0 (279) (in), M4 nCE (66) (in), M5 TDI (67) (in), M14 CLKLK_ENA (276) (in), M19 nCONFIG (275) (in), P5 CLKLK_OUT2p (79) (out), R6 CLKLK_FB2p (58) (in), W10 CONF_DONE (166) (io), W11 nSTATUS (167) (io), W12 TCK (178) (in), W13 TMS (179) (in)
part D pins: A1 GND (power), A11 GND (power), A22 GND (power), AA1 VCCINT (power), AA2 GND (power), AA21 GND (power), AA22 VCCINT (power), AB1 GND (power), AB11 GND (power), AB22 GND (power), B1 VCCINT (power), B2 GND (power), B21 GND (power), B22 VCCINT (power), F6 GND (power), F17 GND (power), G7 GND (power), G16 GND (power), H8 GND (power), H9 VCCINT (power), H15 GND (power), J8 VCCINT (power), J9 GND (power), J11 GND (power), J13 VCCINT (power), J14 GND (power), K10 GND (power), K11 VCCINT (power), K13 GND (power), K14 VCCINT (power), L2 GND (power), L9 VCC_CKLK2 (72) (power), L10 VCCINT (power), L11 GND (power), L12 GND (power), M1 GND (power), M8 VCC_CKLK4 (49) (power), M9 GND_CKLK2 (69/70) (power), M11 GND (power), M12 GND (power), M13 VCCINT (power), M21 GND (power), M22 VCCINT (power), N8 GND_CKLK4 (50/51) (power), N9 VCCINT (power), N10 GND (power), N12 VCCINT (power), N13 GND (power), P9 GND (power), P10 VCCINT (power), P14 GND (power), P15 VCCINT (power), R7 VCCINT (power), R8 GND (power), R14 VCCINT (power), R15 GND (power), T4 GND_CKOUT2 (75) (power), T5 VCC_CKOUT2 (74) (power), T7 GND (power), T16 GND (power), U6 GND (power), U17 GND (power)
part E pins: A2 NC, A3 NC, A4 NC, A5 NC, A6 NC, A7 NC, A8 NC, A9 NC, A10 NC, A12 NC, A13 NC, A14 NC, A15 NC, A16 NC, A17 NC, A18 NC, A19 NC, A20 NC, A21 NC, AB2 NC, AB3 NC, AB4 NC, AB5 NC, AB6 NC, AB7 NC, AB8 NC, AB9 NC, AB10 NC, AB12 NC, AB13 NC, AB14 NC, AB15 NC, AB16 NC, AB17 NC, AB18 NC, AB19 NC, AB20 NC, AB21 NC, C1 NC, C22 NC, D1 NC, D22 NC, E1 NC, E22 NC, F1 NC, F22 NC, G1 NC, G22 NC, H1 NC, H22 NC, J1 NC, J22 NC, K1 NC, K22 NC, N1 NC, N22 NC, P1 NC, P22 NC, R1 NC, R22 NC, T1 NC, T22 NC, U1 NC, U22 NC, V1 NC, V22 NC, W1 NC, W22 NC, Y1 NC, Y22 NC

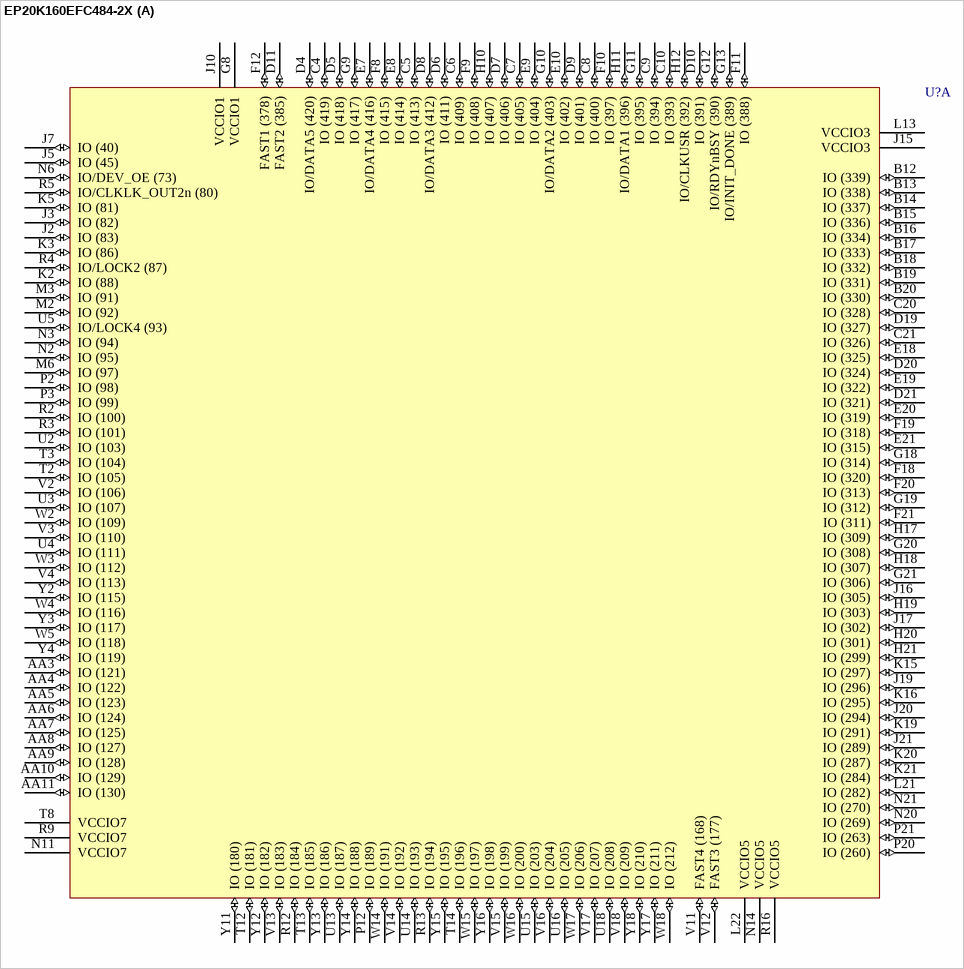
[diagram p133: symbol EP20K160EFC484-2X]

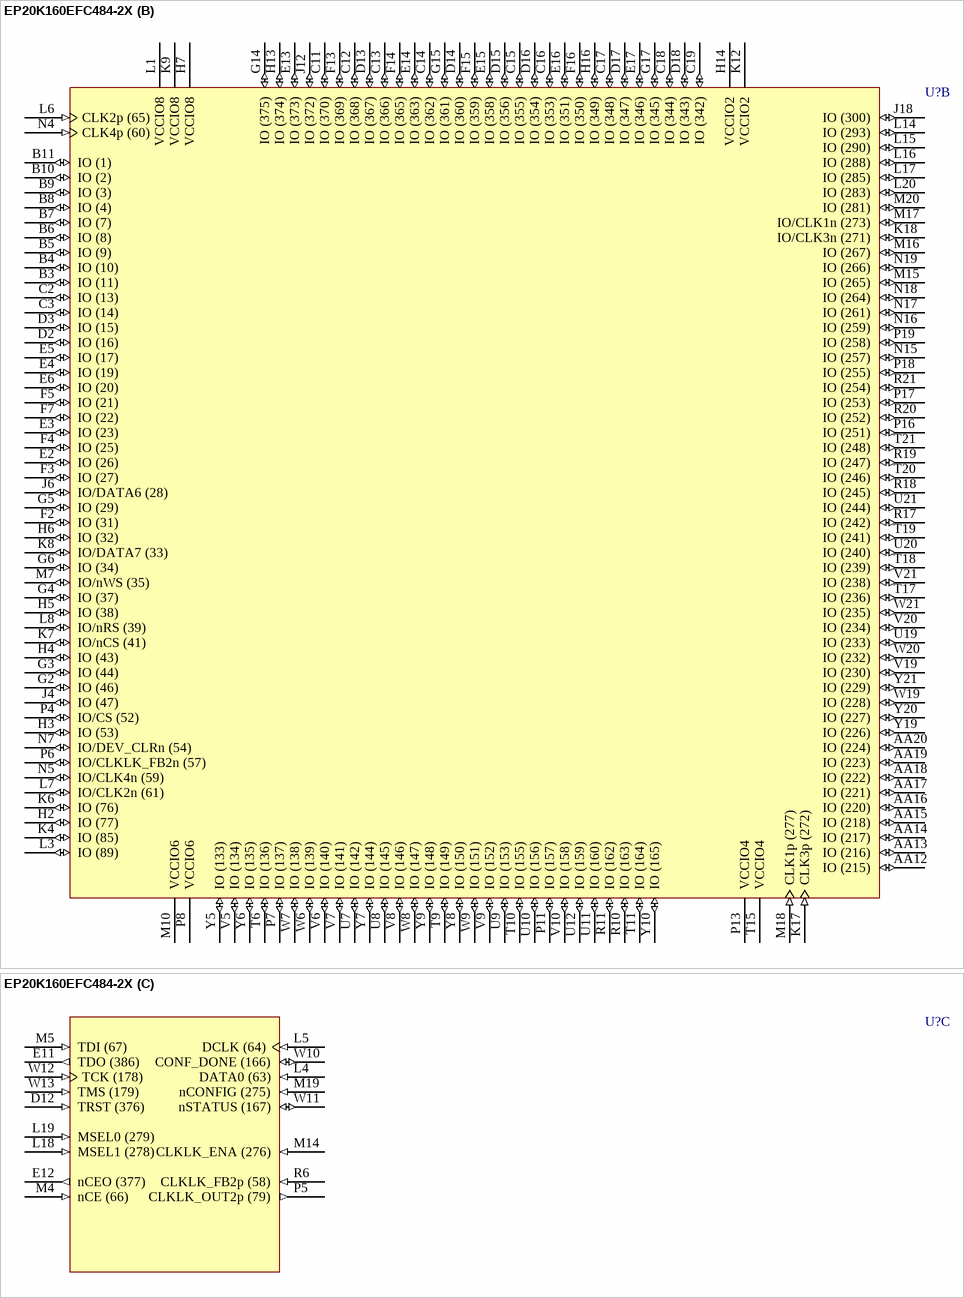
[diagram p134: symbol EP20K160EFC484-2X]

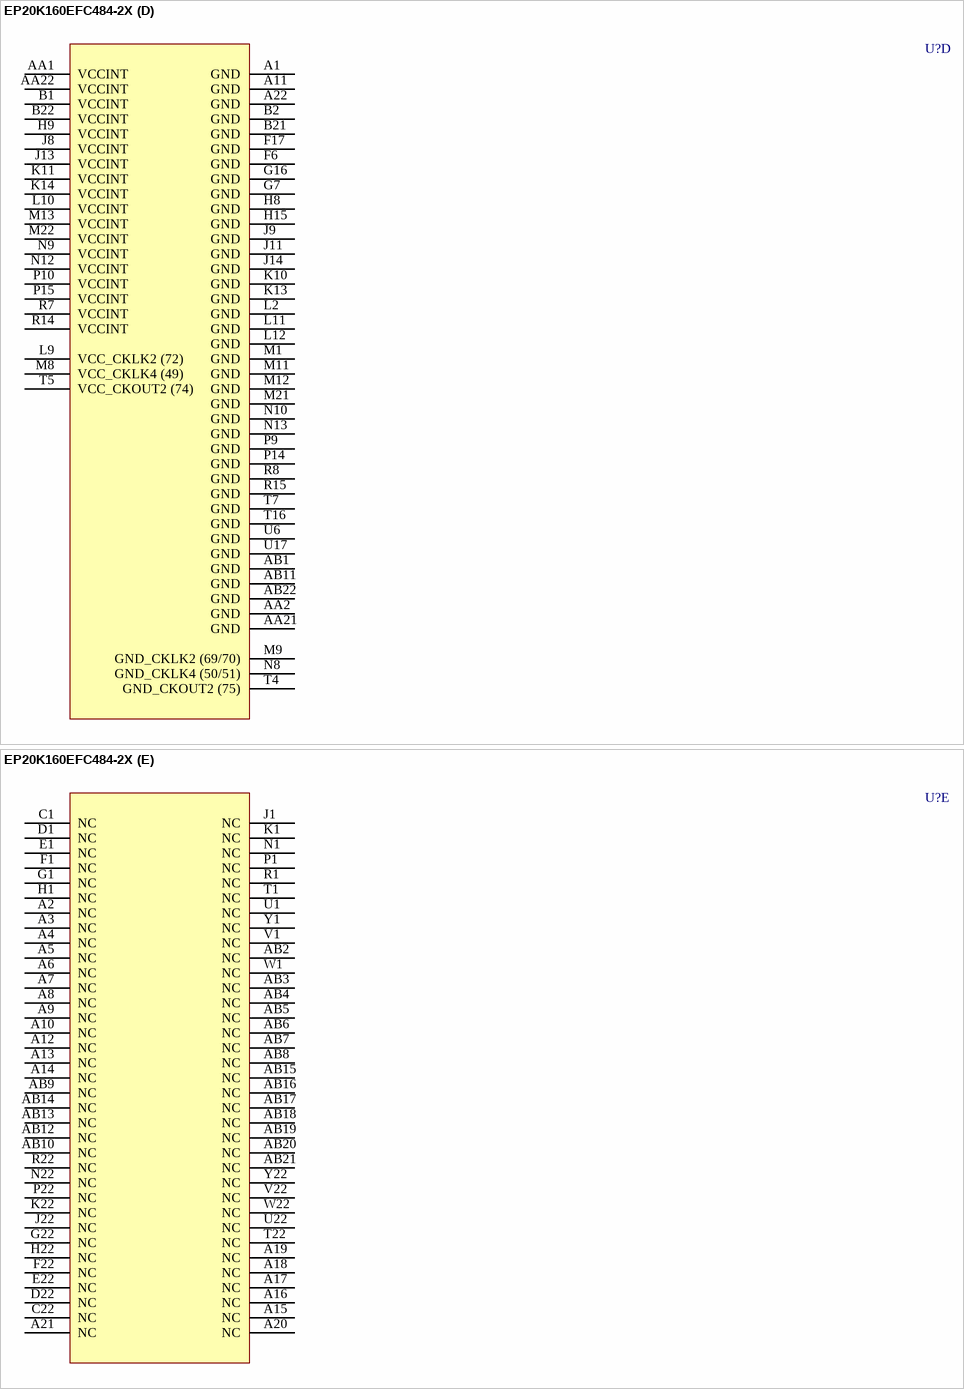
[diagram p135: symbol EP20K160EFC484-2X]